# Altium integrated library Altera Cyclone IV GX update.IntLib: 117 symbols (part 38 of 38)
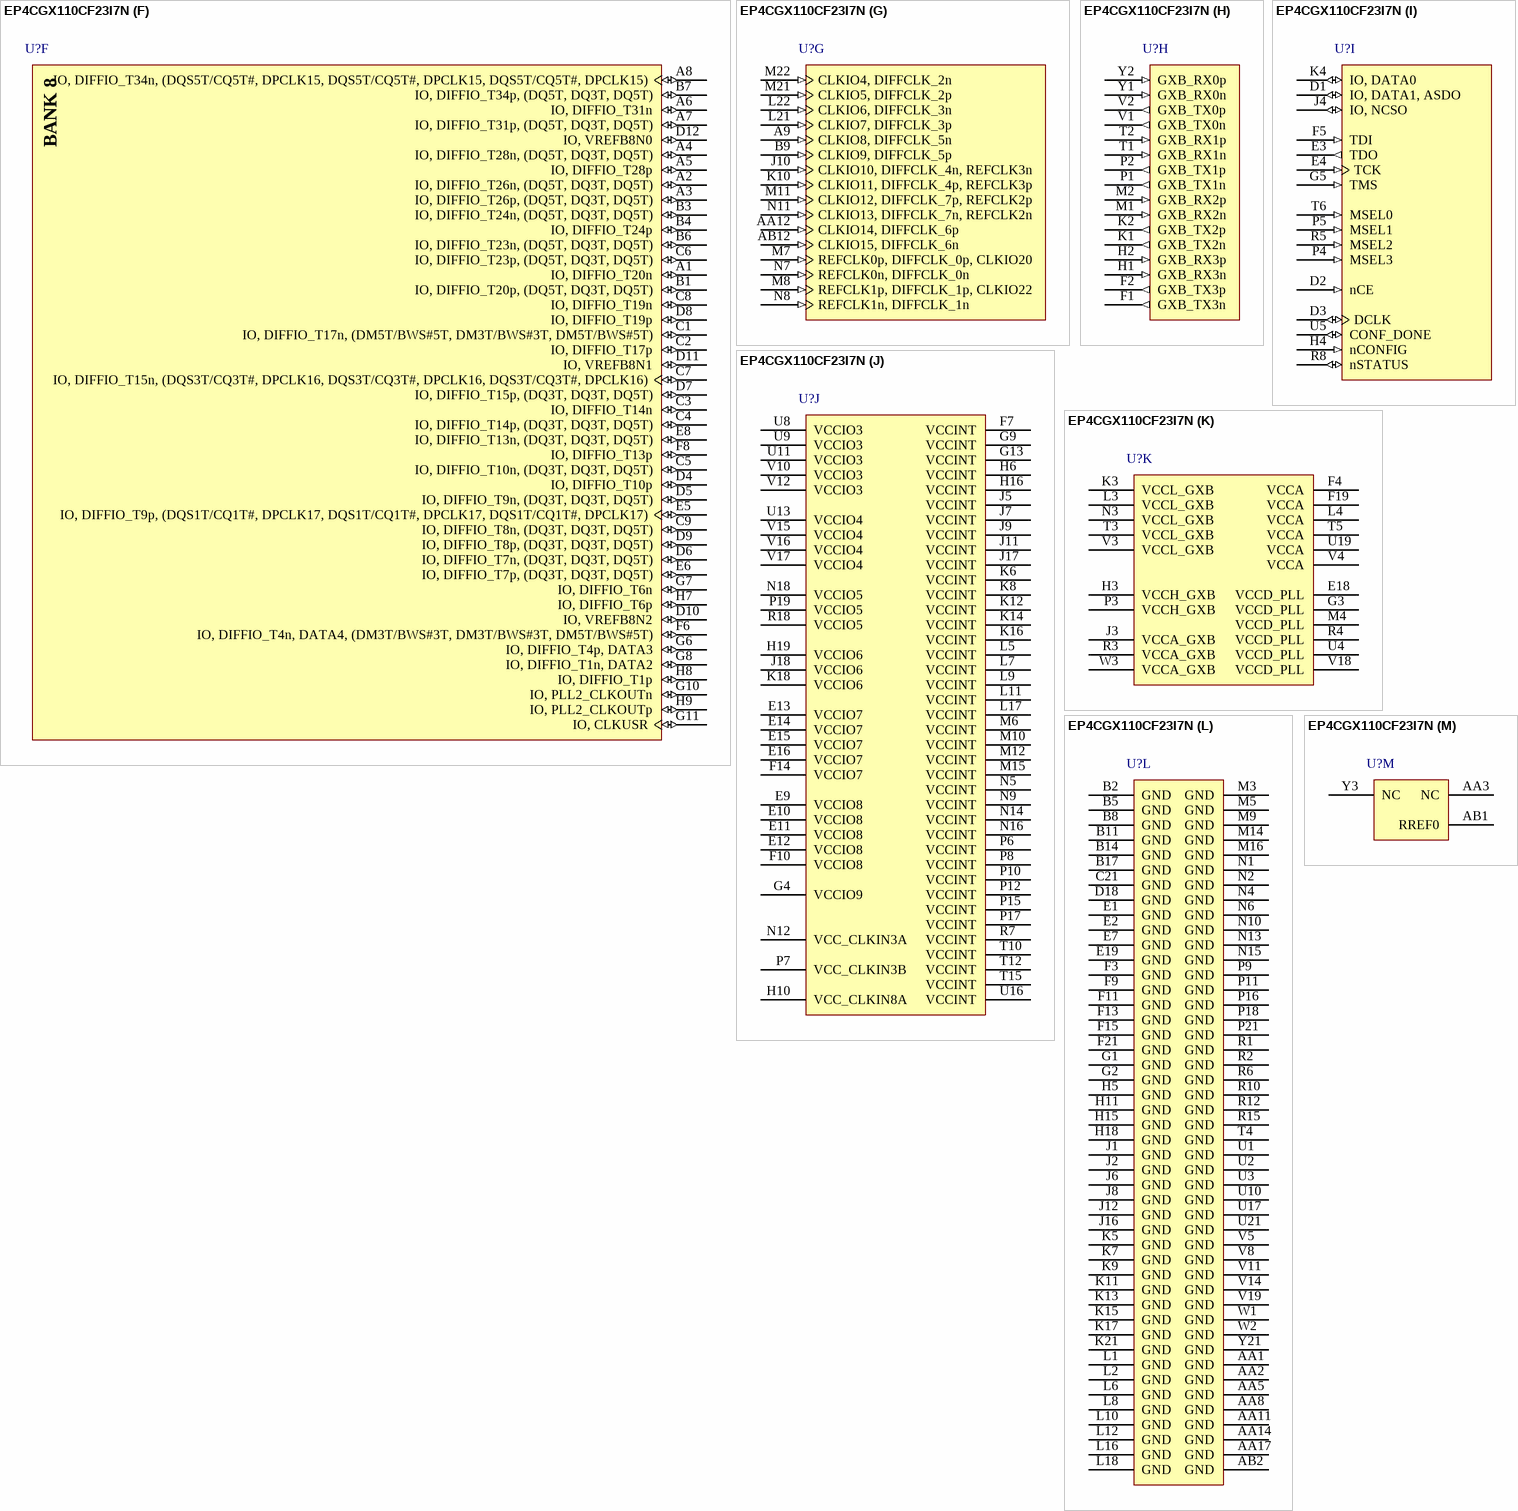
[diagram p272: symbol EP4CGX110CF23I7N]

## EP4CGX110CF23I7N
designator U?
Cyclone IV Family FPGA, 1.2 V Core, 270 I/O Pins, 6 PLLs, 4 High-Speed Transceivers, 484-Pin FBGA, Speed Grade 7, Industrial Grade, Pb-Free; Manufacturer: Altera; Device Group: EP4CGX110; GPIO: 270; Logic Elements (LE) (K): 109.424; NexusDeviceID: EP4CGX110CF23I7N; Pb-Free: TRUE; Speed Grade: 7; DatasheetVersion: Rev. 1.8; PackageVersion: Rev. 2.0, 12/2012; PackageReference: FBGA484_A-240; PackageDescription: 484-Pin FineLine Ball-Grid Array (FBGA), Body 23 x 23 mm, Pitch 1 mm; Supplier 1: Digi-Key; Supplier Part Number 1: EP4CGX110CF23I7N-ND; Supplier 2: Mouser; Supplier Part Number 2: 989-EP4CGX110CF23I7N; RoHS: RoHS Compliant; Subcategory: Cyclone IV GX; Voltage Supply: 1.2 V Core; Mounting Technology: Surface Mount; Code_JEDEC: MS-034; PartNumber: EP4CGX110CF23I7N; ComponentLink1Description: Manufacturer URL; ComponentLink1URL: http://www.altera.com/; ComponentLink2Description: Datasheet; ComponentLink2URL: http://www.altera.com/literature/hb/cyclone-iv/cyiv-53001.pdf; ComponentLink3Description: Package Specification; ComponentLink3URL: http://www.altera.com/devicepackaging/04R00416-03.pdf; ComponentLink4Description: Device Handbook URL; ComponentLink4URL: http://www.altera.com/literature/hb/cyclone-iv/cyclone4-handbook.pdf; ComponentLink5Description: Device Overview URL; ComponentLink5URL: http://www.altera.com/literature/hb/cyclone-iv/cyiv-51001.pdf; ComponentLink6Description: Device Pin-Out URL; ComponentLink6URL: http://www.altera.com/literature/dp/cyclone-iv/EP4CGX110.xls; ComponentLink7Description: Product URL; ComponentLink7URL: http://www.buyaltera.com/scripts/partsearch.dll?Detail&name=EP4CGX110CF23I7N-ND
footprint ALTR-FBGA484_A-240 (BGA, 484-Balls, Body 23x23mm, Pitch 1mm)
part A pins: AA4 IO, DIFFIO_B1p, CRC_ERROR (io), AA6 IO, DIFFIO_B17p, (DQ3B, DQ3B, DQ5B) (io), AA7 IO, DIFFIO_B19p (io), AA9 IO, DIFFIO_B22n, (DQ5B, DQ3B, DQ5B) (io), AA10 IO, DIFFIO_B32n, (DQ5B, DQ3B, DQ5B) (io), AB3 IO, DIFFIO_B1n, NCEO (io), AB4 IO, DIFFIO_B13p, (DQ3B, DQ3B, DQ5B) (io), AB5 IO, DIFFIO_B13n, (DQ3B, DQ3B, DQ5B) (io), AB6 IO, DIFFIO_B17n, (DM5B/BWS#5B, DM3B/BWS#3B, DM5B/BWS#5B) (io), AB7 IO, DIFFIO_B19n (io), AB8 IO, DIFFIO_B23p, (DQ5B, DQ3B, DQ5B) (io), AB9 IO, DIFFIO_B23n (io), AB10 IO, DIFFIO_B36p, (DM4B, DM5B/BWS#5B, DM5B/BWS#5B) (io), AB11 IO, DIFFIO_B36n, (_, DQ5B, DQ5B) (io), R9 IO, DIFFIO_B3p, DATA7 (io), R11 IO, DIFFIO_B7p, (DQS1B/CQ1B#, DPCLK0, DQS1B/CQ1B#, DPCLK0, DQS1B/CQ1B#, DPCLK0) (io), T7 IO, PLL1_CLKOUTp (io), T8 IO, PLL1_CLKOUTn (io), T9 IO, DIFFIO_B3n (io), T11 IO, DIFFIO_B7n, (DQ3B, DQ3B, DQ5B) (io), U6 IO, PLL5_CLKOUTp (io), U7 IO, PLL6_CLKOUTp (io), U12 IO, VREFB3N0 (io), V6 IO, PLL5_CLKOUTn (io), V7 IO, PLL6_CLKOUTn (io), V9 IO, VREFB3N2 (io), W4 IO, DIFFIO_B2p, DATA5 (io), W5 IO, DIFFIO_B5p, (DM3B/BWS#3B, DM3B/BWS#3B, DM5B/BWS#5B) (io), W6 IO, DIFFIO_B8p, (DQ3B, DQ3B, DQ5B) (io), W7 IO, DIFFIO_B9p, (DQ3B, DQ3B, DQ5B) (io), W8 IO, INIT_DONE (io), W9 IO, DIFFIO_B21p, (DQ5B, DQ3B, DQ5B) (io), W10 IO, VREFB3N1 (io), W11 IO, DIFFIO_B30p, (DQ5B, DQ3B, DQ5B) (io), W12 IO, DIFFIO_B35p, (DQ5B, DQ3B, DQ5B) (io), Y4 IO, DIFFIO_B2n, DATA6 (io), Y5 IO, DIFFIO_B5n, (DQ3B, DQ3B, DQ5B) (io), Y6 IO, DIFFIO_B8n, (DQ3B, DQ3B, DQ5B) (io), Y7 IO, DIFFIO_B9n, (DQ3B, DQ3B, DQ5B) (io), Y8 IO, DIFFIO_B21n, (DQS3B/CQ3B#, DPCLK1, DQS3B/CQ3B#, DPCLK1, DQS3B/CQ3B#, DPCLK1) (io), Y9 IO, DIFFIO_B22p, (DQ5B, DQ3B, DQ5B) (io), Y10 IO, DIFFIO_B32p, (DQS5B/CQ5B#, DPCLK2, DQS5B/CQ5B#, DPCLK2, DQS5B/CQ5B#, DPCLK2) (io), Y11 IO, DIFFIO_B30n, (DQ5B, DQ3B, DQ5B) (io), Y12 IO, DIFFIO_B35n, (DQ5B, DQ3B, DQ5B) (io)
part B pins: AA13 IO, DIFFIO_B41p (io), AA15 IO, DIFFIO_B58p, (DQS2B/CQ3B, DPCLK4, DQS2B/CQ3B, DPCLK4, DQS2B/CQ3B, DPCLK4) (io), AA16 IO, DIFFIO_B55n, (DQ2B, DQ5B, DQ5B) (io), AA18 IO, DIFFIO_B60n, (DQ2B, DQ5B, DQ5B) (io), AA19 IO, DIFFIO_B67p (io), AA20 IO, DIFFIO_B69p (io), AA21 IO, DIFFIO_B70p (io), AA22 IO, PLL3_CLKOUTp (io), AB13 IO, DIFFIO_B41n (io), AB14 IO, DIFFIO_B44p, (DQ4B, DQ5B, DQ5B) (io), AB15 IO, DIFFIO_B44n, (DQ4B, DQ5B, DQ5B) (io), AB16 IO, DIFFIO_B58n (io), AB17 IO, DIFFIO_B57p (io), AB18 IO, DIFFIO_B57n, (DQ2B, DQ5B, DQ5B) (io), AB19 IO, DIFFIO_B67n (io), AB20 IO, DIFFIO_B69n, (DQS0B/CQ1B, DPCLK5, DQS0B/CQ1B, DPCLK5, DQS0B/CQ1B, DPCLK5) (io), AB21 IO, DIFFIO_B70n, (_, DQ5B, DQ5B) (io), AB22 IO, PLL3_CLKOUTn (io), R13 IO, DIFFIO_B37p, (DQ4B, DQ5B, DQ5B) (io), R14 IO, DIFFIO_B46p (io), T13 IO, DIFFIO_B37n, (DQS4B/CQ5B, DPCLK3, DQS4B/CQ5B, DPCLK3, DQS4B/CQ5B, DPCLK3) (io), T14 IO, DIFFIO_B46n (io), T16 IO, VREFB4N0 (io), U14 IO, DIFFIO_B54p (io), U15 IO, DIFFIO_B54n, (DQ2B, DQ5B, DQ5B) (io), V13 IO, VREFB4N2 (io), W13 IO, DIFFIO_B39p, (DQ4B, DQ5B, DQ5B) (io), W14 IO, DIFFIO_B45p, (DQ4B, DQ5B, DQ5B) (io), W15 IO, DIFFIO_B52p, (DQ4B, DQ5B, DQ5B) (io), W16 IO, VREFB4N1 (io), W17 IO, DIFFIO_B59p, (DQ2B, DQ5B, DQ5B) (io), W18 IO, DIFFIO_B72p (io), W19 IO, RUP2 (io), Y13 IO, DIFFIO_B39n, (DQ4B, DQ5B, DQ5B) (io), Y14 IO, DIFFIO_B45n, (DQ4B, DQ5B, DQ5B) (io), Y15 IO, DIFFIO_B52n, (DM2B, DM5B/BWS#5B, DM5B/BWS#5B) (io), Y16 IO, DIFFIO_B55p, (DQ2B, DQ5B, DQ5B) (io), Y17 IO, DIFFIO_B59n (io), Y18 IO, DIFFIO_B60p, (DQ2B, DQ5B, DQ5B) (io), Y19 IO, DIFFIO_B72n, (DQ2B, DQ5B, DQ5B) (io), Y20 IO, RDN2 (io)
part C pins: L13 IO, DIFFIO_R39n (io), L14 IO, DIFFIO_R43p (io), L15 IO, DIFFIO_R43n, (DQ1R, DQ3R, DQ1R) (io), M13 IO, DIFFIO_R39p, (DQ1R, DQ3R, DQ1R) (io), M17 IO, DIFFIO_R40n (io), M18 IO, DIFFIO_R34p, (DQ1R, DQ3R, DQ1R) (io), M19 IO, DIFFIO_R34n, (DQ1R, DQ3R, DQ1R) (io), M20 IO, VREFB5N0 (io), N17 IO, DIFFIO_R40p, (DQ1R, DQ3R, DQ1R) (io), N19 IO, DIFFIO_R38p, (DQS1R/CQ1R#, DPCLK8, DQS1R/CQ1R#, DPCLK8, DQS1R/CQ1R#, DPCLK8) (io), N20 IO, DIFFIO_R38n (io), N21 IO, DIFFIO_R36p, (DQ1R, DQ3R, DQ1R) (io), N22 IO, DIFFIO_R36n, (DQ1R, DQ3R, DQ1R) (io), P13 IO, DIFFIO_R55p, DEV_CLRn (io), P14 IO, DIFFIO_R55n, DEV_OE (io), P20 IO, VREFB5N1 (io), P22 IO, DIFFIO_R41n, (DQ1R, DQ3R, DQ1R) (io), R16 IO, DIFFIO_R61p, (DQS5R/CQ5R#, DPCLK6, DQS5R/CQ5R#, DPCLK6, DQS5R/CQ5R#, DPCLK6) (io), R17 IO, DIFFIO_R61n, (DM3R/BWS#3R, DM3R/BWS#3R, DM1R/BWS#1R) (io), R19 IO, DIFFIO_R51p, (DQ3R, DQ3R, DQ1R) (io), R20 IO, DIFFIO_R48p, (DM1R/BWS#1R, DM3R/BWS#3R, DM1R/BWS#1R) (io), R21 IO, DIFFIO_R48n (io), R22 IO, DIFFIO_R41p (io), T17 IO, RUP3 (io), T18 IO, RDN3 (io), T19 IO, DIFFIO_R52p (io), T20 IO, DIFFIO_R51n, (DQ3R, DQ3R, DQ1R) (io), T21 IO, DIFFIO_R46p, (DQ1R, DQ3R, DQ1R) (io), T22 IO, DIFFIO_R46n (io), U18 IO, VREFB5N2 (io), U20 IO, DIFFIO_R52n, (DQ3R, DQ3R, DQ1R) (io), U22 IO, DIFFIO_R50n (io), V20 IO, DIFFIO_R54p, (DQ3R, DQ3R, DQ1R) (io), V21 IO, DIFFIO_R54n, (DQ3R, DQ3R, DQ1R) (io), V22 IO, DIFFIO_R50p, (DQS3R/CQ3R#, DPCLK7, DQS3R/CQ3R#, DPCLK7, DQS3R/CQ3R#, DPCLK7) (io), W20 IO, DIFFIO_R57p, (DQ3R, DQ3R, DQ1R) (io), W21 IO, DIFFIO_R57n, (DQ3R, DQ3R, DQ1R) (io), W22 IO, DIFFIO_R60n, (DQ3R, DQ3R, DQ1R) (io), Y22 IO, DIFFIO_R60p, (DQ3R, DQ3R, DQ1R) (io)
part D pins: A20 IO, DIFFIO_R12n (io), A21 IO, DIFFIO_R14p, (DQ2R, DQ1R, DQ1R) (io), A22 IO, DIFFIO_R14n (io), B19 IO, DIFFIO_R12p, (DQ2R, DQ1R, DQ1R) (io), B20 IO, DIFFIO_R10p, (DQ2R, DQ1R, DQ1R) (io), B21 IO, DIFFIO_R10n, (DQS2R/CQ3R, DPCLK10, DQS2R/CQ3R, DPCLK10, DQS2R/CQ3R, DPCLK10) (io), B22 IO, DIFFIO_R15n (io), C19 IO, DIFFIO_R11p, (DQ2R, DQ1R, DQ1R) (io), C20 IO, DIFFIO_R11n (io), C22 IO, DIFFIO_R15p, (_, DQ1R, DQ1R) (io), D19 IO, DIFFIO_R13p, (DQ2R, DQ1R, DQ1R) (io), D20 IO, DIFFIO_R13n (io), D21 IO, DIFFIO_R16p, (DM2R, DM1R/BWS#1R, DM1R/BWS#1R) (io), D22 IO, DIFFIO_R16n (io), E20 IO, DIFFIO_R20n (io), E21 IO, DIFFIO_R17p, (_, DQ1R, DQ1R) (io), E22 IO, DIFFIO_R17n (io), F18 IO, DIFFIO_R1p, (DQ2R, DQ1R, DQ1R) (io), F20 IO, DIFFIO_R20p (io), F22 IO, DIFFIO_R19n, (DQ0R, DQ1R, DQ1R) (io), G16 IO, DIFFIO_R2p, (DQS4R/CQ5R, DPCLK11, DQS4R/CQ5R, DPCLK11, DQS4R/CQ5R, DPCLK11) (io), G17 IO, DIFFIO_R2n, (DQ2R, DQ1R, DQ1R) (io), G18 IO, VREFB6N0 (io), G19 IO, DIFFIO_R1n, (DQ2R, DQ1R, DQ1R) (io), G20 IO, DIFFIO_R22p, (DQ0R, DQ1R, DQ1R) (io), G21 IO, DIFFIO_R22n (io), G22 IO, DIFFIO_R19p (io), H17 IO, VREFB6N1 (io), H20 IO, DIFFIO_R23p, (DQ0R, DQ1R, DQ1R) (io), H21 IO, DIFFIO_R23n (io), H22 IO, DIFFIO_R29n, (DQS0R/CQ1R, DPCLK9, DQS0R/CQ1R, DPCLK9, DQS0R/CQ1R, DPCLK9) (io), J15 IO, VREFB6N2 (io), J19 IO, DIFFIO_R31p, (DQ0R, DQ1R, DQ1R) (io), J20 IO, DIFFIO_R31n, (DQ0R, DQ1R, DQ1R) (io), J21 IO, DIFFIO_R29p (io), J22 IO, DIFFIO_R26n (io), K19 IO, DIFFIO_R25p, (DQ0R, DQ1R, DQ1R) (io), K20 IO, DIFFIO_R25n (io), K22 IO, DIFFIO_R26p, (DQ0R, DQ1R, DQ1R) (io), L19 IO, DIFFIO_R32p, (DQ0R, DQ1R, DQ1R) (io), L20 IO, DIFFIO_R32n, (DM0R, DM1R/BWS#1R, DM1R/BWS#1R) (io)
part E pins: A10 IO, DIFFIO_T37n, (DQ4T, DQ5T, DQ5T) (io), A11 IO, DIFFIO_T40n, (DQ4T, DQ5T, DQ5T) (io), A12 IO, DIFFIO_T40p (io), A13 IO, DIFFIO_T52n (io), A14 IO, DIFFIO_T52p, (_, DQ5T, DQ5T) (io), A15 IO, DIFFIO_T56n, (DQ2T, DQ5T, DQ5T) (io), A16 IO, DIFFIO_T63n, (DQ2T, DQ5T, DQ5T) (io), A17 IO, DIFFIO_T63p (io), A18 IO, DIFFIO_T69n, (DQ2T, DQ5T, DQ5T) (io), A19 IO, DIFFIO_T69p, (DQ2T, DQ5T, DQ5T) (io), B10 IO, DIFFIO_T37p, (DQS4T/CQ5T, DPCLK14, DQS4T/CQ5T, DPCLK14, DQS4T/CQ5T, DPCLK14) (io), B12 IO, DIFFIO_T49n, (DQ4T, DQ5T, DQ5T) (io), B13 IO, DIFFIO_T49p, (DQ4T, DQ5T, DQ5T) (io), B15 IO, DIFFIO_T56p, (DQ2T, DQ5T, DQ5T) (io), B16 IO, DIFFIO_T65n, (DQS0T/CQ1T, DPCLK12, DQS0T/CQ1T, DPCLK12, DQS0T/CQ1T, DPCLK12) (io), B18 IO (io), C10 IO, DIFFIO_T42n, (DQ4T, DQ5T, DQ5T) (io), C11 IO, DIFFIO_T42p (io), C12 IO, DIFFIO_T51n, (DM2T, DM5T/BWS#5T, DM5T/BWS#5T) (io), C13 IO, DIFFIO_T51p (io), C14 IO, DIFFIO_T55n (io), C15 IO, DIFFIO_T61n, (DQ2T, DQ5T, DQ5T) (io), C16 IO, DIFFIO_T65p, (DQ2T, DQ5T, DQ5T) (io), C17 IO, PLL4_CLKOUTn (io), C18 IO, PLL4_CLKOUTp (io), D13 IO, VREFB7N1 (io), D14 IO, DIFFIO_T55p, (DQ2T, DQ5T, DQ5T) (io), D15 IO, DIFFIO_T61p (io), D16 IO, VREFB7N0 (io), D17 IO, DIFFIO_T67n (io), E17 IO, DIFFIO_T67p (io), F12 IO, VREFB7N2 (io), F16 IO, RUP4 (io), F17 IO, RDN4 (io), G12 IO, DIFFIO_T36n, (_, DQ5T, DQ5T) (io), G14 IO, DIFFIO_T47n (io), G15 IO, DIFFIO_T47p, (DQS2T/CQ3T, DPCLK13, DQS2T/CQ3T, DPCLK13, DQS2T/CQ3T, DPCLK13) (io), H12 IO, DIFFIO_T36p, (DM4T, DM5T/BWS#5T, DM5T/BWS#5T) (io), H13 IO, DIFFIO_T41n, (DQ4T, DQ5T, DQ5T) (io), H14 IO, DIFFIO_T45n (io), J13 IO, DIFFIO_T41p, (DQ4T, DQ5T, DQ5T) (io), J14 IO, DIFFIO_T45p, (DQ4T, DQ5T, DQ5T) (io)
part F pins: A1 IO, DIFFIO_T20n (io), A2 IO, DIFFIO_T26n, (DQ5T, DQ3T, DQ5T) (io), A3 IO, DIFFIO_T26p, (DQ5T, DQ3T, DQ5T) (io), A4 IO, DIFFIO_T28n, (DQ5T, DQ3T, DQ5T) (io), A5 IO, DIFFIO_T28p (io), A6 IO, DIFFIO_T31n (io), A7 IO, DIFFIO_T31p, (DQ5T, DQ3T, DQ5T) (io), A8 IO, DIFFIO_T34n, (DQS5T/CQ5T#, DPCLK15, DQS5T/CQ5T#, DPCLK15, DQS5T/CQ5T#, DPCLK15) (io), B1 IO, DIFFIO_T20p, (DQ5T, DQ3T, DQ5T) (io), B3 IO, DIFFIO_T24n, (DQ5T, DQ3T, DQ5T) (io), B4 IO, DIFFIO_T24p (io), B6 IO, DIFFIO_T23n, (DQ5T, DQ3T, DQ5T) (io), B7 IO, DIFFIO_T34p, (DQ5T, DQ3T, DQ5T) (io), C1 IO, DIFFIO_T17n, (DM5T/BWS#5T, DM3T/BWS#3T, DM5T/BWS#5T) (io), C2 IO, DIFFIO_T17p (io), C3 IO, DIFFIO_T14n (io), C4 IO, DIFFIO_T14p, (DQ3T, DQ3T, DQ5T) (io), C5 IO, DIFFIO_T10n, (DQ3T, DQ3T, DQ5T) (io), C6 IO, DIFFIO_T23p, (DQ5T, DQ3T, DQ5T) (io), C7 IO, DIFFIO_T15n, (DQS3T/CQ3T#, DPCLK16, DQS3T/CQ3T#, DPCLK16, DQS3T/CQ3T#, DPCLK16) (io), C8 IO, DIFFIO_T19n (io), C9 IO, DIFFIO_T8n, (DQ3T, DQ3T, DQ5T) (io), D4 IO, DIFFIO_T10p (io), D5 IO, DIFFIO_T9n, (DQ3T, DQ3T, DQ5T) (io), D6 IO, DIFFIO_T7n, (DQ3T, DQ3T, DQ5T) (io), D7 IO, DIFFIO_T15p, (DQ3T, DQ3T, DQ5T) (io), D8 IO, DIFFIO_T19p (io), D9 IO, DIFFIO_T8p, (DQ3T, DQ3T, DQ5T) (io), D10 IO, VREFB8N2 (io), D11 IO, VREFB8N1 (io), D12 IO, VREFB8N0 (io), E5 IO, DIFFIO_T9p, (DQS1T/CQ1T#, DPCLK17, DQS1T/CQ1T#, DPCLK17, DQS1T/CQ1T#, DPCLK17) (io), E6 IO, DIFFIO_T7p, (DQ3T, DQ3T, DQ5T) (io), E8 IO, DIFFIO_T13n, (DQ3T, DQ3T, DQ5T) (io), F6 IO, DIFFIO_T4n, DATA4, (DM3T/BWS#3T, DM3T/BWS#3T, DM5T/BWS#5T) (io), F8 IO, DIFFIO_T13p (io), G6 IO, DIFFIO_T4p, DATA3 (io), G7 IO, DIFFIO_T6n (io), G8 IO, DIFFIO_T1n, DATA2 (io), G10 IO, PLL2_CLKOUTn (io), G11 IO, CLKUSR (io), H7 IO, DIFFIO_T6p (io), H8 IO, DIFFIO_T1p (io), H9 IO, PLL2_CLKOUTp (io)
part G pins: A9 CLKIO8, DIFFCLK_5n (in), AA12 CLKIO14, DIFFCLK_6p (in), AB12 CLKIO15, DIFFCLK_6n (in), B9 CLKIO9, DIFFCLK_5p (in), J10 CLKIO10, DIFFCLK_4n, REFCLK3n (in), K10 CLKIO11, DIFFCLK_4p, REFCLK3p (in), L21 CLKIO7, DIFFCLK_3p (in), L22 CLKIO6, DIFFCLK_3n (in), M7 REFCLK0p, DIFFCLK_0p, CLKIO20 (in), M8 REFCLK1p, DIFFCLK_1p, CLKIO22 (in), M11 CLKIO12, DIFFCLK_7p, REFCLK2p (in), M21 CLKIO5, DIFFCLK_2p (in), M22 CLKIO4, DIFFCLK_2n (in), N7 REFCLK0n, DIFFCLK_0n (in), N8 REFCLK1n, DIFFCLK_1n (in), N11 CLKIO13, DIFFCLK_7n, REFCLK2n (in)
part H pins: F1 GXB_TX3n (out), F2 GXB_TX3p (out), H1 GXB_RX3n (in), H2 GXB_RX3p (in), K1 GXB_TX2n (out), K2 GXB_TX2p (out), M1 GXB_RX2n (in), M2 GXB_RX2p (in), P1 GXB_TX1n (out), P2 GXB_TX1p (out), T1 GXB_RX1n (in), T2 GXB_RX1p (in), V1 GXB_TX0n (out), V2 GXB_TX0p (out), Y1 GXB_RX0n (in), Y2 GXB_RX0p (in)
part I pins: D1 IO, DATA1, ASDO (io), D2 nCE (in), D3 DCLK (io), E3 TDO (out), E4 TCK (in), F5 TDI (in), G5 TMS (in), H4 nCONFIG (in), J4 IO, NCSO (io), K4 IO, DATA0 (io), P4 MSEL3 (in), P5 MSEL1 (in), R5 MSEL2 (in), R8 nSTATUS (io), T6 MSEL0 (in), U5 CONF_DONE (io)
part J pins: E9 VCCIO8 (power), E10 VCCIO8 (power), E11 VCCIO8 (power), E12 VCCIO8 (power), E13 VCCIO7 (power), E14 VCCIO7 (power), E15 VCCIO7 (power), E16 VCCIO7 (power), F7 VCCINT (power), F10 VCCIO8 (power), F14 VCCIO7 (power), G4 VCCIO9 (power), G9 VCCINT (power), G13 VCCINT (power), H6 VCCINT (power), H10 VCC_CLKIN8A (power), H16 VCCINT (power), H19 VCCIO6 (power), J5 VCCINT (power), J7 VCCINT (power), J9 VCCINT (power), J11 VCCINT (power), J17 VCCINT (power), J18 VCCIO6 (power), K6 VCCINT (power), K8 VCCINT (power), K12 VCCINT (power), K14 VCCINT (power), K16 VCCINT (power), K18 VCCIO6 (power), L5 VCCINT (power), L7 VCCINT (power), L9 VCCINT (power), L11 VCCINT (power), L17 VCCINT (power), M6 VCCINT (power), M10 VCCINT (power), M12 VCCINT (power), M15 VCCINT (power), N5 VCCINT (power), N9 VCCINT (power), N12 VCC_CLKIN3A (power), N14 VCCINT (power), N16 VCCINT (power), N18 VCCIO5 (power), P6 VCCINT (power), P7 VCC_CLKIN3B (power), P8 VCCINT (power), P10 VCCINT (power), P12 VCCINT (power), P15 VCCINT (power), P17 VCCINT (power), P19 VCCIO5 (power), R7 VCCINT (power), R18 VCCIO5 (power), T10 VCCINT (power), T12 VCCINT (power), T15 VCCINT (power), U8 VCCIO3 (power), U9 VCCIO3 (power), U11 VCCIO3 (power), U13 VCCIO4 (power), U16 VCCINT (power), V10 VCCIO3 (power), V12 VCCIO3 (power), V15 VCCIO4 (power), V16 VCCIO4 (power), V17 VCCIO4 (power)
part K pins: E18 VCCD_PLL (power), F4 VCCA (power), F19 VCCA (power), G3 VCCD_PLL (power), H3 VCCH_GXB (power), J3 VCCA_GXB (power), K3 VCCL_GXB (power), L3 VCCL_GXB (power), L4 VCCA (power), M4 VCCD_PLL (power), N3 VCCL_GXB (power), P3 VCCH_GXB (power), R3 VCCA_GXB (power), R4 VCCD_PLL (power), T3 VCCL_GXB (power), T5 VCCA (power), U4 VCCD_PLL (power), U19 VCCA (power), V3 VCCL_GXB (power), V4 VCCA (power), V18 VCCD_PLL (power), W3 VCCA_GXB (power)
part L pins: AA1 GND (power), AA2 GND (power), AA5 GND (power), AA8 GND (power), AA11 GND (power), AA14 GND (power), AA17 GND (power), AB2 GND (power), B2 GND (power), B5 GND (power), B8 GND (power), B11 GND (power), B14 GND (power), B17 GND (power), C21 GND (power), D18 GND (power), E1 GND (power), E2 GND (power), E7 GND (power), E19 GND (power), F3 GND (power), F9 GND (power), F11 GND (power), F13 GND (power), F15 GND (power), F21 GND (power), G1 GND (power), G2 GND (power), H5 GND (power), H11 GND (power), H15 GND (power), H18 GND (power), J1 GND (power), J2 GND (power), J6 GND (power), J8 GND (power), J12 GND (power), J16 GND (power), K5 GND (power), K7 GND (power), K9 GND (power), K11 GND (power), K13 GND (power), K15 GND (power), K17 GND (power), K21 GND (power), L1 GND (power), L2 GND (power), L6 GND (power), L8 GND (power), L10 GND (power), L12 GND (power), L16 GND (power), L18 GND (power), M3 GND (power), M5 GND (power), M9 GND (power), M14 GND (power), M16 GND (power), N1 GND (power), N2 GND (power), N4 GND (power), N6 GND (power), N10 GND (power), N13 GND (power), N15 GND (power), P9 GND (power), P11 GND (power), P16 GND (power), P18 GND (power), P21 GND (power), R1 GND (power), R2 GND (power), R6 GND (power), R10 GND (power), R12 GND (power), R15 GND (power), T4 GND (power), U1 GND (power), U2 GND (power), U3 GND (power), U10 GND (power), U17 GND (power), U21 GND (power), V5 GND (power), V8 GND (power), V11 GND (power), V14 GND (power), V19 GND (power), W1 GND (power), W2 GND (power), Y21 GND (power)
part M pins: AA3 NC, AB1 RREF0, Y3 NC
part A text: BANK 3
part B text: BANK 4
part C text: BANK 5
part D text: BANK 6
part E text: BANK 7
part F text: BANK 8

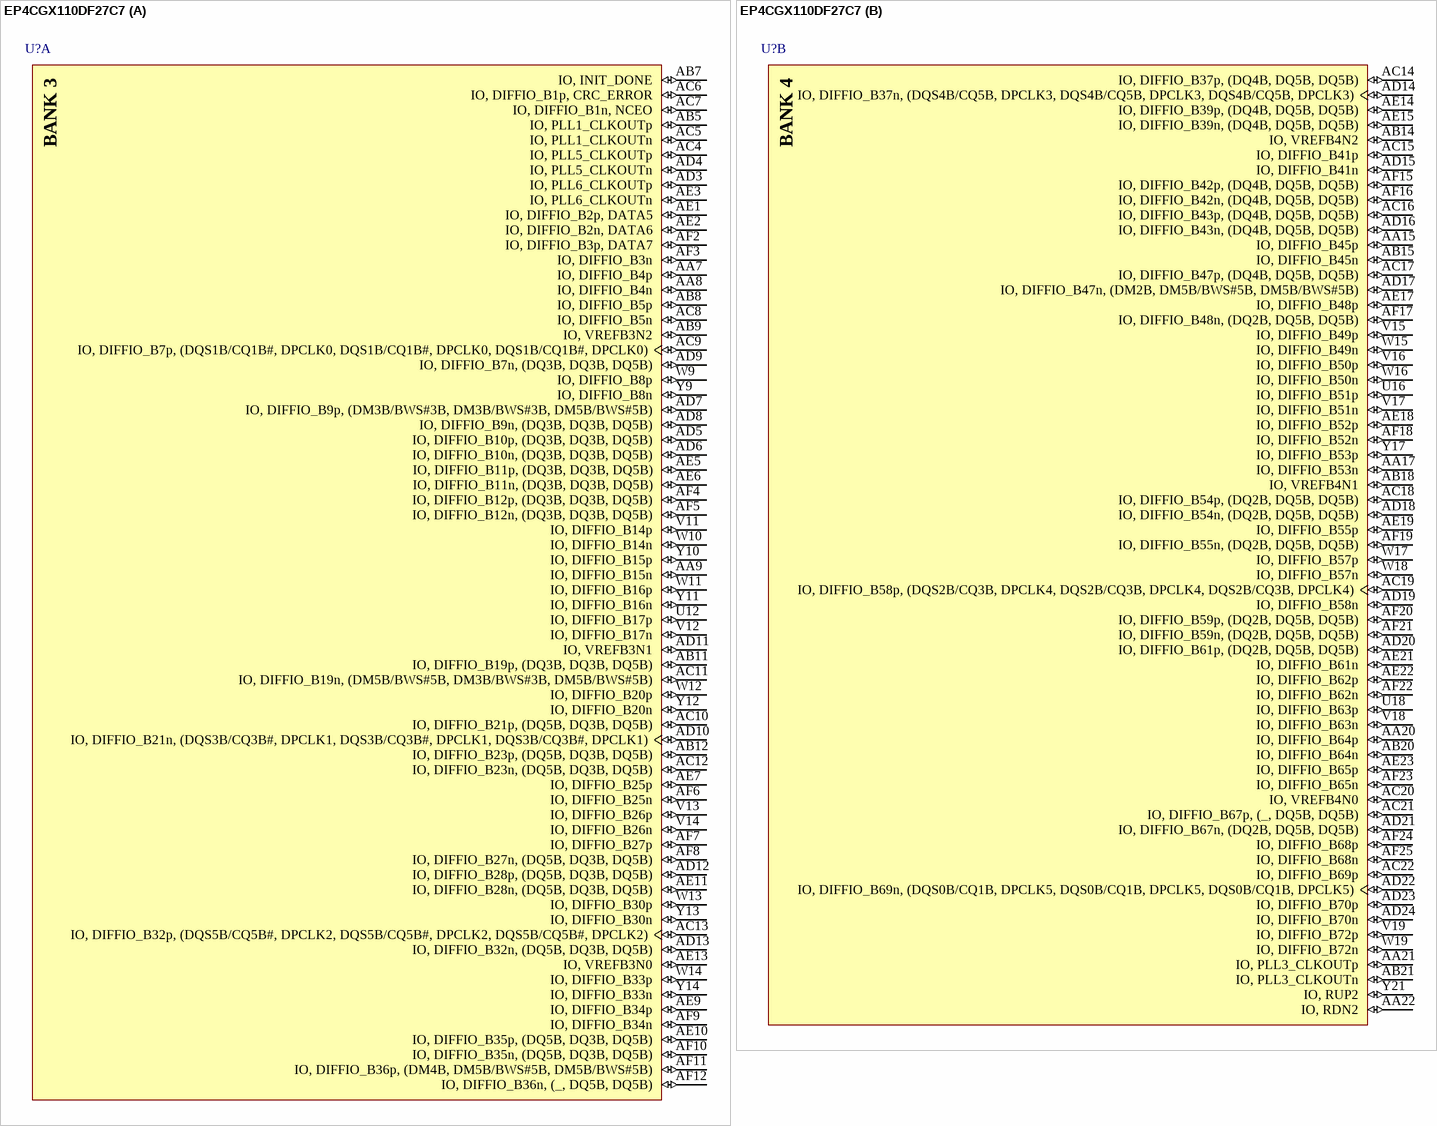
[diagram p145: symbol EP4CGX110DF27C7]

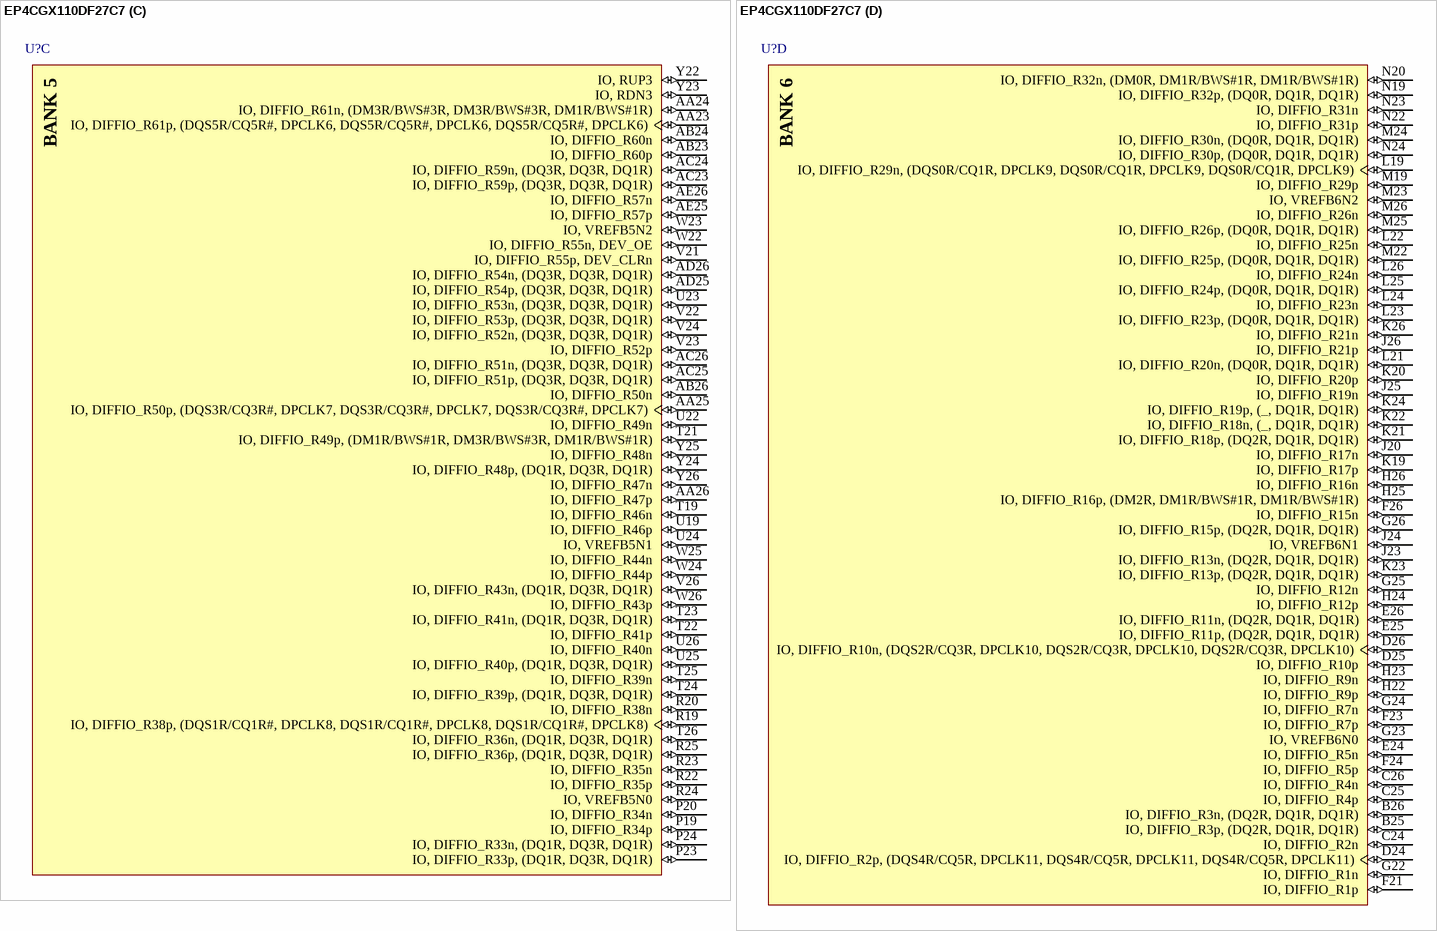
[diagram p146: symbol EP4CGX110DF27C7]

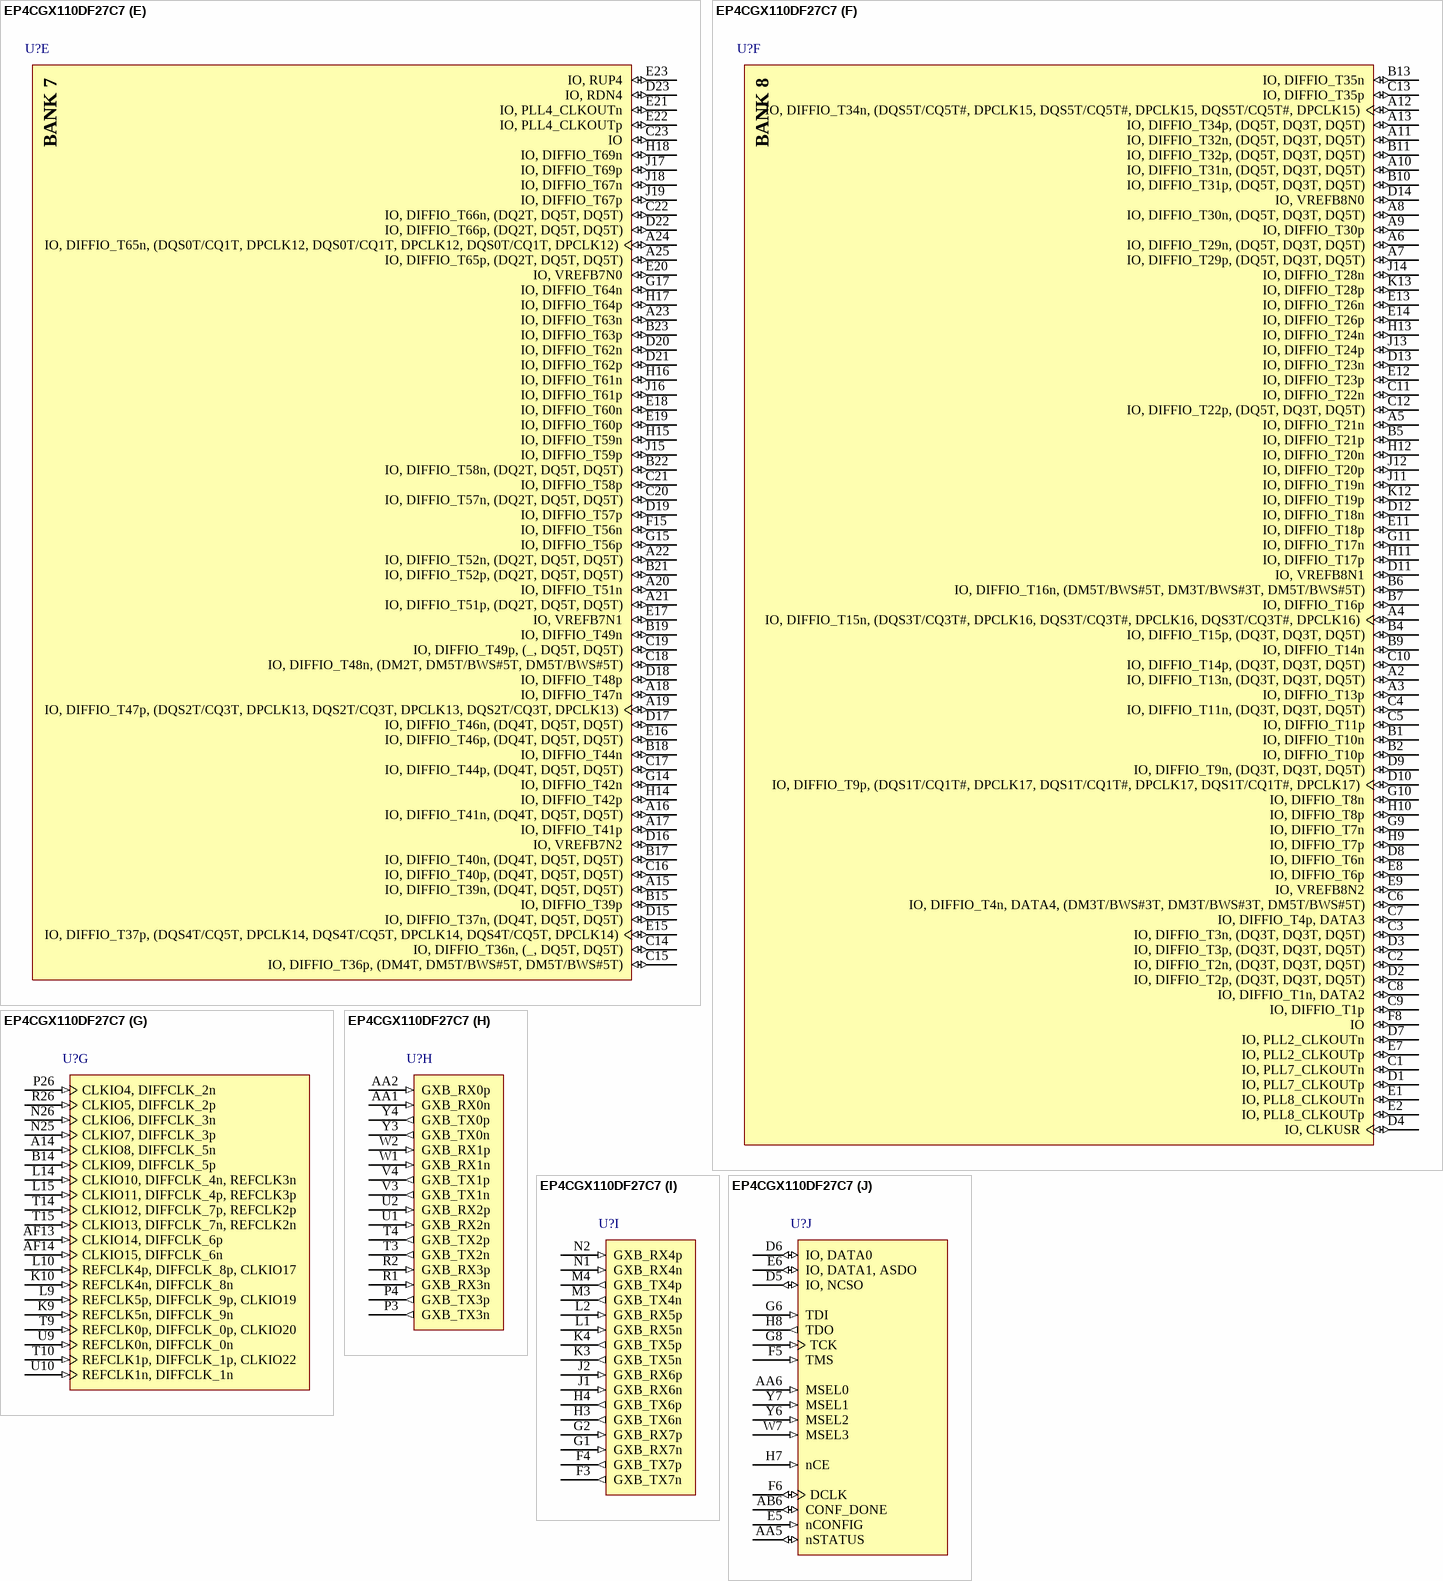
[diagram p147: symbol EP4CGX110DF27C7]

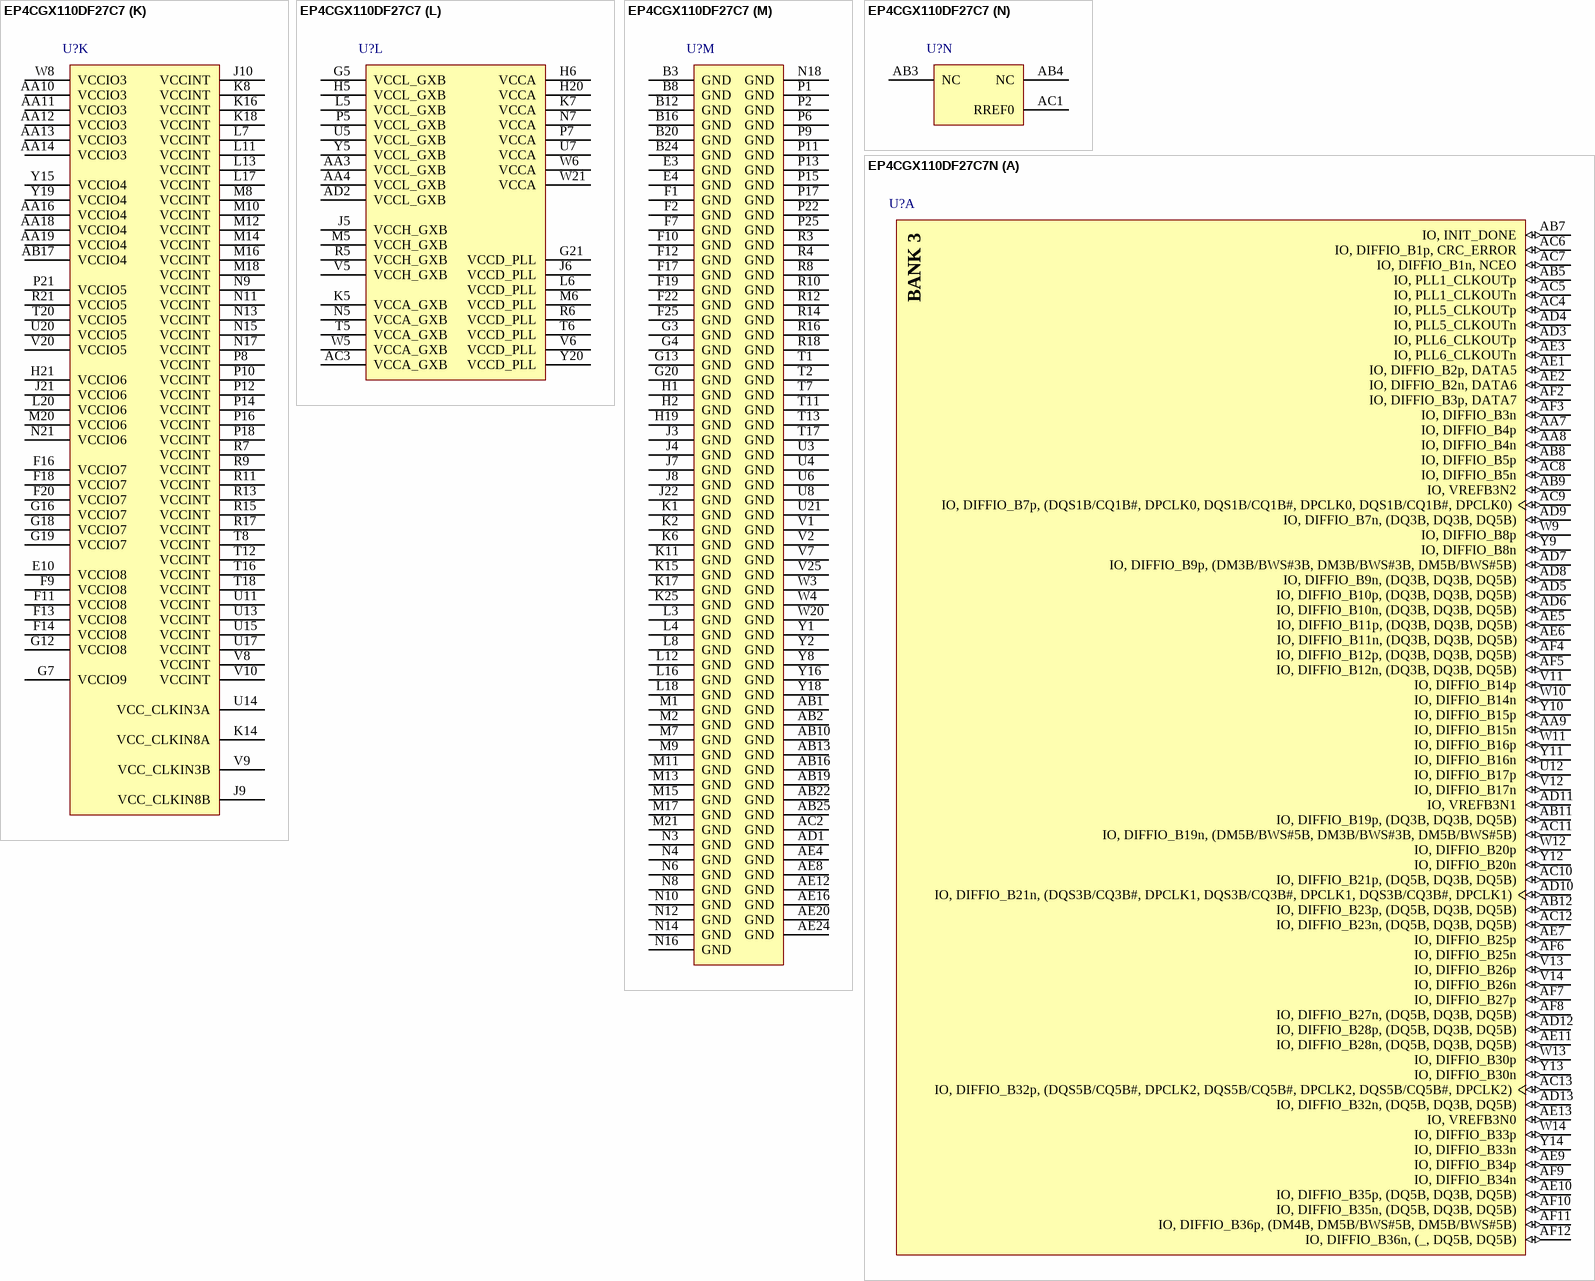
[diagram p148: symbols EP4CGX110DF27C7 to EP4CGX110DF27C7N]

## EP4CGX110DF27C7
designator U?
Cyclone IV Family FPGA, 1.2 V Core, 393 I/O Pins, 8 PLLs, 8 High-Speed Transceivers, 672-Pin FBGA, Speed Grade 7, Commercial Grade; Manufacturer: Altera; Device Group: EP4CGX110; GPIO: 393; Logic Elements (LE) (K): 109.424; NexusDeviceID: EP4CGX110DF27C7; Speed Grade: 7; DatasheetVersion: Rev. 1.8; PackageVersion: Rev. 2.0, 12/2013; PackageReference: FBGA672_A-240; PackageDescription: 672-Pin FineLine Ball-Grid Array (FBGA), Body 27 x 27 mm, Pitch 1 mm; Supplier 1: Digi-Key; Supplier Part Number 1: EP4CGX110DF27C7-ND; Supplier 2: Mouser; Supplier Part Number 2: 989-EP4CGX110DF27C7; Subcategory: Cyclone IV GX; Voltage Supply: 1.2 V Core; Mounting Technology: Surface Mount; Code_JEDEC: MS-034; PartNumber: EP4CGX110DF27C7; ComponentLink1Description: Manufacturer URL; ComponentLink1URL: http://www.altera.com/; ComponentLink2Description: Datasheet; ComponentLink2URL: http://www.altera.com/literature/hb/cyclone-iv/cyiv-53001.pdf; ComponentLink3Description: Package Specification; ComponentLink3URL: http://www.altera.com/devicepackaging/04R00419-02.pdf; ComponentLink4Description: Device Handbook URL; ComponentLink4URL: http://www.altera.com/literature/hb/cyclone-iv/cyclone4-handbook.pdf; ComponentLink5Description: Device Overview URL; ComponentLink5URL: http://www.altera.com/literature/hb/cyclone-iv/cyiv-51001.pdf; ComponentLink6Description: Device Pin-Out URL; ComponentLink6URL: http://www.altera.com/literature/dp/cyclone-iv/EP4CGX110.xls; ComponentLink7Description: Product URL; ComponentLink7URL: http://www.buyaltera.com/scripts/partsearch.dll?Detail&name=EP4CGX110DF27C7-ND
footprint ALTR-FBGA672_A-240 (BGA, 672-Balls, Body 27x27mm, Pitch 1mm)
part A pins: AA7 IO, DIFFIO_B4p (io), AA8 IO, DIFFIO_B4n (io), AA9 IO, DIFFIO_B15n (io), AB5 IO, PLL1_CLKOUTp (io), AB7 IO, INIT_DONE (io), AB8 IO, DIFFIO_B5p (io), AB9 IO, VREFB3N2 (io), AB11 IO, DIFFIO_B19p, (DQ3B, DQ3B, DQ5B) (io), AB12 IO, DIFFIO_B23p, (DQ5B, DQ3B, DQ5B) (io), AC4 IO, PLL5_CLKOUTp (io), AC5 IO, PLL1_CLKOUTn (io), AC6 IO, DIFFIO_B1p, CRC_ERROR (io), AC7 IO, DIFFIO_B1n, NCEO (io), AC8 IO, DIFFIO_B5n (io), AC9 IO, DIFFIO_B7p, (DQS1B/CQ1B#, DPCLK0, DQS1B/CQ1B#, DPCLK0, DQS1B/CQ1B#, DPCLK0) (io), AC10 IO, DIFFIO_B21p, (DQ5B, DQ3B, DQ5B) (io), AC11 IO, DIFFIO_B19n, (DM5B/BWS#5B, DM3B/BWS#3B, DM5B/BWS#5B) (io), AC12 IO, DIFFIO_B23n, (DQ5B, DQ3B, DQ5B) (io), AC13 IO, DIFFIO_B32p, (DQS5B/CQ5B#, DPCLK2, DQS5B/CQ5B#, DPCLK2, DQS5B/CQ5B#, DPCLK2) (io), AD3 IO, PLL6_CLKOUTp (io), AD4 IO, PLL5_CLKOUTn (io), AD5 IO, DIFFIO_B10p, (DQ3B, DQ3B, DQ5B) (io), AD6 IO, DIFFIO_B10n, (DQ3B, DQ3B, DQ5B) (io), AD7 IO, DIFFIO_B9p, (DM3B/BWS#3B, DM3B/BWS#3B, DM5B/BWS#5B) (io), AD8 IO, DIFFIO_B9n, (DQ3B, DQ3B, DQ5B) (io), AD9 IO, DIFFIO_B7n, (DQ3B, DQ3B, DQ5B) (io), AD10 IO, DIFFIO_B21n, (DQS3B/CQ3B#, DPCLK1, DQS3B/CQ3B#, DPCLK1, DQS3B/CQ3B#, DPCLK1) (io), AD11 IO, VREFB3N1 (io), AD12 IO, DIFFIO_B28p, (DQ5B, DQ3B, DQ5B) (io), AD13 IO, DIFFIO_B32n, (DQ5B, DQ3B, DQ5B) (io), AE1 IO, DIFFIO_B2p, DATA5 (io), AE2 IO, DIFFIO_B2n, DATA6 (io), AE3 IO, PLL6_CLKOUTn (io), AE5 IO, DIFFIO_B11p, (DQ3B, DQ3B, DQ5B) (io), AE6 IO, DIFFIO_B11n, (DQ3B, DQ3B, DQ5B) (io), AE7 IO, DIFFIO_B25p (io), AE9 IO, DIFFIO_B34p (io), AE10 IO, DIFFIO_B35p, (DQ5B, DQ3B, DQ5B) (io), AE11 IO, DIFFIO_B28n, (DQ5B, DQ3B, DQ5B) (io), AE13 IO, VREFB3N0 (io), AF2 IO, DIFFIO_B3p, DATA7 (io), AF3 IO, DIFFIO_B3n (io), AF4 IO, DIFFIO_B12p, (DQ3B, DQ3B, DQ5B) (io), AF5 IO, DIFFIO_B12n, (DQ3B, DQ3B, DQ5B) (io), AF6 IO, DIFFIO_B25n (io), AF7 IO, DIFFIO_B27p (io), AF8 IO, DIFFIO_B27n, (DQ5B, DQ3B, DQ5B) (io), AF9 IO, DIFFIO_B34n (io), AF10 IO, DIFFIO_B35n, (DQ5B, DQ3B, DQ5B) (io), AF11 IO, DIFFIO_B36p, (DM4B, DM5B/BWS#5B, DM5B/BWS#5B) (io), AF12 IO, DIFFIO_B36n, (_, DQ5B, DQ5B) (io), U12 IO, DIFFIO_B17p (io), V11 IO, DIFFIO_B14p (io), V12 IO, DIFFIO_B17n (io), V13 IO, DIFFIO_B26p (io), V14 IO, DIFFIO_B26n (io), W9 IO, DIFFIO_B8p (io), W10 IO, DIFFIO_B14n (io), W11 IO, DIFFIO_B16p (io), W12 IO, DIFFIO_B20p (io), W13 IO, DIFFIO_B30p (io), W14 IO, DIFFIO_B33p (io), Y9 IO, DIFFIO_B8n (io), Y10 IO, DIFFIO_B15p (io), Y11 IO, DIFFIO_B16n (io), Y12 IO, DIFFIO_B20n (io), Y13 IO, DIFFIO_B30n (io), Y14 IO, DIFFIO_B33n (io)
part B pins: AA15 IO, DIFFIO_B45p (io), AA17 IO, DIFFIO_B53n (io), AA20 IO, DIFFIO_B64p (io), AA21 IO, PLL3_CLKOUTp (io), AA22 IO, RDN2 (io), AB14 IO, VREFB4N2 (io), AB15 IO, DIFFIO_B45n (io), AB18 IO, VREFB4N1 (io), AB20 IO, DIFFIO_B64n (io), AB21 IO, PLL3_CLKOUTn (io), AC14 IO, DIFFIO_B37p, (DQ4B, DQ5B, DQ5B) (io), AC15 IO, DIFFIO_B41p (io), AC16 IO, DIFFIO_B43p, (DQ4B, DQ5B, DQ5B) (io), AC17 IO, DIFFIO_B47p, (DQ4B, DQ5B, DQ5B) (io), AC18 IO, DIFFIO_B54p, (DQ2B, DQ5B, DQ5B) (io), AC19 IO, DIFFIO_B58p, (DQS2B/CQ3B, DPCLK4, DQS2B/CQ3B, DPCLK4, DQS2B/CQ3B, DPCLK4) (io), AC20 IO, VREFB4N0 (io), AC21 IO, DIFFIO_B67p, (_, DQ5B, DQ5B) (io), AC22 IO, DIFFIO_B69p (io), AD14 IO, DIFFIO_B37n, (DQS4B/CQ5B, DPCLK3, DQS4B/CQ5B, DPCLK3, DQS4B/CQ5B, DPCLK3) (io), AD15 IO, DIFFIO_B41n (io), AD16 IO, DIFFIO_B43n, (DQ4B, DQ5B, DQ5B) (io), AD17 IO, DIFFIO_B47n, (DM2B, DM5B/BWS#5B, DM5B/BWS#5B) (io), AD18 IO, DIFFIO_B54n, (DQ2B, DQ5B, DQ5B) (io), AD19 IO, DIFFIO_B58n (io), AD20 IO, DIFFIO_B61p, (DQ2B, DQ5B, DQ5B) (io), AD21 IO, DIFFIO_B67n, (DQ2B, DQ5B, DQ5B) (io), AD22 IO, DIFFIO_B69n, (DQS0B/CQ1B, DPCLK5, DQS0B/CQ1B, DPCLK5, DQS0B/CQ1B, DPCLK5) (io), AD23 IO, DIFFIO_B70p (io), AD24 IO, DIFFIO_B70n (io), AE14 IO, DIFFIO_B39p, (DQ4B, DQ5B, DQ5B) (io), AE15 IO, DIFFIO_B39n, (DQ4B, DQ5B, DQ5B) (io), AE17 IO, DIFFIO_B48p (io), AE18 IO, DIFFIO_B52p (io), AE19 IO, DIFFIO_B55p (io), AE21 IO, DIFFIO_B61n (io), AE22 IO, DIFFIO_B62p (io), AE23 IO, DIFFIO_B65p (io), AF15 IO, DIFFIO_B42p, (DQ4B, DQ5B, DQ5B) (io), AF16 IO, DIFFIO_B42n, (DQ4B, DQ5B, DQ5B) (io), AF17 IO, DIFFIO_B48n, (DQ2B, DQ5B, DQ5B) (io), AF18 IO, DIFFIO_B52n (io), AF19 IO, DIFFIO_B55n, (DQ2B, DQ5B, DQ5B) (io), AF20 IO, DIFFIO_B59p, (DQ2B, DQ5B, DQ5B) (io), AF21 IO, DIFFIO_B59n, (DQ2B, DQ5B, DQ5B) (io), AF22 IO, DIFFIO_B62n (io), AF23 IO, DIFFIO_B65n (io), AF24 IO, DIFFIO_B68p (io), AF25 IO, DIFFIO_B68n (io), U16 IO, DIFFIO_B51p (io), U18 IO, DIFFIO_B63p (io), V15 IO, DIFFIO_B49p (io), V16 IO, DIFFIO_B50p (io), V17 IO, DIFFIO_B51n (io), V18 IO, DIFFIO_B63n (io), V19 IO, DIFFIO_B72p (io), W15 IO, DIFFIO_B49n (io), W16 IO, DIFFIO_B50n (io), W17 IO, DIFFIO_B57p (io), W18 IO, DIFFIO_B57n (io), W19 IO, DIFFIO_B72n (io), Y17 IO, DIFFIO_B53p (io), Y21 IO, RUP2 (io)
part C pins: AA23 IO, DIFFIO_R61p, (DQS5R/CQ5R#, DPCLK6, DQS5R/CQ5R#, DPCLK6, DQS5R/CQ5R#, DPCLK6) (io), AA24 IO, DIFFIO_R61n, (DM3R/BWS#3R, DM3R/BWS#3R, DM1R/BWS#1R) (io), AA25 IO, DIFFIO_R50p, (DQS3R/CQ3R#, DPCLK7, DQS3R/CQ3R#, DPCLK7, DQS3R/CQ3R#, DPCLK7) (io), AA26 IO, DIFFIO_R47p (io), AB23 IO, DIFFIO_R60p (io), AB24 IO, DIFFIO_R60n (io), AB26 IO, DIFFIO_R50n (io), AC23 IO, DIFFIO_R59p, (DQ3R, DQ3R, DQ1R) (io), AC24 IO, DIFFIO_R59n, (DQ3R, DQ3R, DQ1R) (io), AC25 IO, DIFFIO_R51p, (DQ3R, DQ3R, DQ1R) (io), AC26 IO, DIFFIO_R51n, (DQ3R, DQ3R, DQ1R) (io), AD25 IO, DIFFIO_R54p, (DQ3R, DQ3R, DQ1R) (io), AD26 IO, DIFFIO_R54n, (DQ3R, DQ3R, DQ1R) (io), AE25 IO, DIFFIO_R57p (io), AE26 IO, DIFFIO_R57n (io), P19 IO, DIFFIO_R34p (io), P20 IO, DIFFIO_R34n (io), P23 IO, DIFFIO_R33p, (DQ1R, DQ3R, DQ1R) (io), P24 IO, DIFFIO_R33n, (DQ1R, DQ3R, DQ1R) (io), R19 IO, DIFFIO_R38p, (DQS1R/CQ1R#, DPCLK8, DQS1R/CQ1R#, DPCLK8, DQS1R/CQ1R#, DPCLK8) (io), R20 IO, DIFFIO_R38n (io), R22 IO, DIFFIO_R35p (io), R23 IO, DIFFIO_R35n (io), R24 IO, VREFB5N0 (io), R25 IO, DIFFIO_R36p, (DQ1R, DQ3R, DQ1R) (io), T19 IO, DIFFIO_R46n (io), T21 IO, DIFFIO_R49p, (DM1R/BWS#1R, DM3R/BWS#3R, DM1R/BWS#1R) (io), T22 IO, DIFFIO_R41p (io), T23 IO, DIFFIO_R41n, (DQ1R, DQ3R, DQ1R) (io), T24 IO, DIFFIO_R39p, (DQ1R, DQ3R, DQ1R) (io), T25 IO, DIFFIO_R39n (io), T26 IO, DIFFIO_R36n, (DQ1R, DQ3R, DQ1R) (io), U19 IO, DIFFIO_R46p (io), U22 IO, DIFFIO_R49n (io), U23 IO, DIFFIO_R53n, (DQ3R, DQ3R, DQ1R) (io), U24 IO, VREFB5N1 (io), U25 IO, DIFFIO_R40p, (DQ1R, DQ3R, DQ1R) (io), U26 IO, DIFFIO_R40n (io), V21 IO, DIFFIO_R55p, DEV_CLRn (io), V22 IO, DIFFIO_R53p, (DQ3R, DQ3R, DQ1R) (io), V23 IO, DIFFIO_R52p (io), V24 IO, DIFFIO_R52n, (DQ3R, DQ3R, DQ1R) (io), V26 IO, DIFFIO_R43n, (DQ1R, DQ3R, DQ1R) (io), W22 IO, DIFFIO_R55n, DEV_OE (io), W23 IO, VREFB5N2 (io), W24 IO, DIFFIO_R44p (io), W25 IO, DIFFIO_R44n (io), W26 IO, DIFFIO_R43p (io), Y22 IO, RUP3 (io), Y23 IO, RDN3 (io), Y24 IO, DIFFIO_R48p, (DQ1R, DQ3R, DQ1R) (io), Y25 IO, DIFFIO_R48n (io), Y26 IO, DIFFIO_R47n (io)
part D pins: B25 IO, DIFFIO_R3p, (DQ2R, DQ1R, DQ1R) (io), B26 IO, DIFFIO_R3n, (DQ2R, DQ1R, DQ1R) (io), C24 IO, DIFFIO_R2n (io), C25 IO, DIFFIO_R4p (io), C26 IO, DIFFIO_R4n (io), D24 IO, DIFFIO_R2p, (DQS4R/CQ5R, DPCLK11, DQS4R/CQ5R, DPCLK11, DQS4R/CQ5R, DPCLK11) (io), D25 IO, DIFFIO_R10p (io), D26 IO, DIFFIO_R10n, (DQS2R/CQ3R, DPCLK10, DQS2R/CQ3R, DPCLK10, DQS2R/CQ3R, DPCLK10) (io), E24 IO, DIFFIO_R5n (io), E25 IO, DIFFIO_R11p, (DQ2R, DQ1R, DQ1R) (io), E26 IO, DIFFIO_R11n, (DQ2R, DQ1R, DQ1R) (io), F21 IO, DIFFIO_R1p (io), F23 IO, DIFFIO_R7p (io), F24 IO, DIFFIO_R5p (io), F26 IO, DIFFIO_R15n (io), G22 IO, DIFFIO_R1n (io), G23 IO, VREFB6N0 (io), G24 IO, DIFFIO_R7n (io), G25 IO, DIFFIO_R12n (io), G26 IO, DIFFIO_R15p, (DQ2R, DQ1R, DQ1R) (io), H22 IO, DIFFIO_R9p (io), H23 IO, DIFFIO_R9n (io), H24 IO, DIFFIO_R12p (io), H25 IO, DIFFIO_R16p, (DM2R, DM1R/BWS#1R, DM1R/BWS#1R) (io), H26 IO, DIFFIO_R16n (io), J20 IO, DIFFIO_R17n (io), J23 IO, DIFFIO_R13n, (DQ2R, DQ1R, DQ1R) (io), J24 IO, VREFB6N1 (io), J25 IO, DIFFIO_R19n (io), J26 IO, DIFFIO_R21p (io), K19 IO, DIFFIO_R17p (io), K20 IO, DIFFIO_R20p (io), K21 IO, DIFFIO_R18p, (DQ2R, DQ1R, DQ1R) (io), K22 IO, DIFFIO_R18n, (_, DQ1R, DQ1R) (io), K23 IO, DIFFIO_R13p, (DQ2R, DQ1R, DQ1R) (io), K24 IO, DIFFIO_R19p, (_, DQ1R, DQ1R) (io), K26 IO, DIFFIO_R21n (io), L19 IO, DIFFIO_R29n, (DQS0R/CQ1R, DPCLK9, DQS0R/CQ1R, DPCLK9, DQS0R/CQ1R, DPCLK9) (io), L21 IO, DIFFIO_R20n, (DQ0R, DQ1R, DQ1R) (io), L22 IO, DIFFIO_R25n (io), L23 IO, DIFFIO_R23p, (DQ0R, DQ1R, DQ1R) (io), L24 IO, DIFFIO_R23n (io), L25 IO, DIFFIO_R24p, (DQ0R, DQ1R, DQ1R) (io), L26 IO, DIFFIO_R24n (io), M19 IO, DIFFIO_R29p (io), M22 IO, DIFFIO_R25p, (DQ0R, DQ1R, DQ1R) (io), M23 IO, VREFB6N2 (io), M24 IO, DIFFIO_R30n, (DQ0R, DQ1R, DQ1R) (io), M25 IO, DIFFIO_R26p, (DQ0R, DQ1R, DQ1R) (io), M26 IO, DIFFIO_R26n (io), N19 IO, DIFFIO_R32p, (DQ0R, DQ1R, DQ1R) (io), N20 IO, DIFFIO_R32n, (DM0R, DM1R/BWS#1R, DM1R/BWS#1R) (io), N22 IO, DIFFIO_R31p (io), N23 IO, DIFFIO_R31n (io), N24 IO, DIFFIO_R30p, (DQ0R, DQ1R, DQ1R) (io)
part E pins: A15 IO, DIFFIO_T39n, (DQ4T, DQ5T, DQ5T) (io), A16 IO, DIFFIO_T41n, (DQ4T, DQ5T, DQ5T) (io), A17 IO, DIFFIO_T41p (io), A18 IO, DIFFIO_T47n (io), A19 IO, DIFFIO_T47p, (DQS2T/CQ3T, DPCLK13, DQS2T/CQ3T, DPCLK13, DQS2T/CQ3T, DPCLK13) (io), A20 IO, DIFFIO_T51n (io), A21 IO, DIFFIO_T51p, (DQ2T, DQ5T, DQ5T) (io), A22 IO, DIFFIO_T52n, (DQ2T, DQ5T, DQ5T) (io), A23 IO, DIFFIO_T63n (io), A24 IO, DIFFIO_T65n, (DQS0T/CQ1T, DPCLK12, DQS0T/CQ1T, DPCLK12, DQS0T/CQ1T, DPCLK12) (io), A25 IO, DIFFIO_T65p, (DQ2T, DQ5T, DQ5T) (io), B15 IO, DIFFIO_T39p (io), B17 IO, DIFFIO_T40n, (DQ4T, DQ5T, DQ5T) (io), B18 IO, DIFFIO_T44n (io), B19 IO, DIFFIO_T49n (io), B21 IO, DIFFIO_T52p, (DQ2T, DQ5T, DQ5T) (io), B22 IO, DIFFIO_T58n, (DQ2T, DQ5T, DQ5T) (io), B23 IO, DIFFIO_T63p (io), C14 IO, DIFFIO_T36n, (_, DQ5T, DQ5T) (io), C15 IO, DIFFIO_T36p, (DM4T, DM5T/BWS#5T, DM5T/BWS#5T) (io), C16 IO, DIFFIO_T40p, (DQ4T, DQ5T, DQ5T) (io), C17 IO, DIFFIO_T44p, (DQ4T, DQ5T, DQ5T) (io), C18 IO, DIFFIO_T48n, (DM2T, DM5T/BWS#5T, DM5T/BWS#5T) (io), C19 IO, DIFFIO_T49p, (_, DQ5T, DQ5T) (io), C20 IO, DIFFIO_T57n, (DQ2T, DQ5T, DQ5T) (io), C21 IO, DIFFIO_T58p (io), C22 IO, DIFFIO_T66n, (DQ2T, DQ5T, DQ5T) (io), C23 IO (io), D15 IO, DIFFIO_T37n, (DQ4T, DQ5T, DQ5T) (io), D16 IO, VREFB7N2 (io), D17 IO, DIFFIO_T46n, (DQ4T, DQ5T, DQ5T) (io), D18 IO, DIFFIO_T48p (io), D19 IO, DIFFIO_T57p (io), D20 IO, DIFFIO_T62n (io), D21 IO, DIFFIO_T62p (io), D22 IO, DIFFIO_T66p, (DQ2T, DQ5T, DQ5T) (io), D23 IO, RDN4 (io), E15 IO, DIFFIO_T37p, (DQS4T/CQ5T, DPCLK14, DQS4T/CQ5T, DPCLK14, DQS4T/CQ5T, DPCLK14) (io), E16 IO, DIFFIO_T46p, (DQ4T, DQ5T, DQ5T) (io), E17 IO, VREFB7N1 (io), E18 IO, DIFFIO_T60n (io), E19 IO, DIFFIO_T60p (io), E20 IO, VREFB7N0 (io), E21 IO, PLL4_CLKOUTn (io), E22 IO, PLL4_CLKOUTp (io), E23 IO, RUP4 (io), F15 IO, DIFFIO_T56n (io), G14 IO, DIFFIO_T42n (io), G15 IO, DIFFIO_T56p (io), G17 IO, DIFFIO_T64n (io), H14 IO, DIFFIO_T42p (io), H15 IO, DIFFIO_T59n (io), H16 IO, DIFFIO_T61n (io), H17 IO, DIFFIO_T64p (io), H18 IO, DIFFIO_T69n (io), J15 IO, DIFFIO_T59p (io), J16 IO, DIFFIO_T61p (io), J17 IO, DIFFIO_T69p (io), J18 IO, DIFFIO_T67n (io), J19 IO, DIFFIO_T67p (io)
part F pins: A2 IO, DIFFIO_T13n, (DQ3T, DQ3T, DQ5T) (io), A3 IO, DIFFIO_T13p (io), A4 IO, DIFFIO_T15n, (DQS3T/CQ3T#, DPCLK16, DQS3T/CQ3T#, DPCLK16, DQS3T/CQ3T#, DPCLK16) (io), A5 IO, DIFFIO_T21n (io), A6 IO, DIFFIO_T29n, (DQ5T, DQ3T, DQ5T) (io), A7 IO, DIFFIO_T29p, (DQ5T, DQ3T, DQ5T) (io), A8 IO, DIFFIO_T30n, (DQ5T, DQ3T, DQ5T) (io), A9 IO, DIFFIO_T30p (io), A10 IO, DIFFIO_T31n, (DQ5T, DQ3T, DQ5T) (io), A11 IO, DIFFIO_T32n, (DQ5T, DQ3T, DQ5T) (io), A12 IO, DIFFIO_T34n, (DQS5T/CQ5T#, DPCLK15, DQS5T/CQ5T#, DPCLK15, DQS5T/CQ5T#, DPCLK15) (io), A13 IO, DIFFIO_T34p, (DQ5T, DQ3T, DQ5T) (io), B1 IO, DIFFIO_T10n (io), B2 IO, DIFFIO_T10p (io), B4 IO, DIFFIO_T15p, (DQ3T, DQ3T, DQ5T) (io), B5 IO, DIFFIO_T21p (io), B6 IO, DIFFIO_T16n, (DM5T/BWS#5T, DM3T/BWS#3T, DM5T/BWS#5T) (io), B7 IO, DIFFIO_T16p (io), B9 IO, DIFFIO_T14n (io), B10 IO, DIFFIO_T31p, (DQ5T, DQ3T, DQ5T) (io), B11 IO, DIFFIO_T32p, (DQ5T, DQ3T, DQ5T) (io), B13 IO, DIFFIO_T35n (io), C1 IO, PLL7_CLKOUTn (io), C2 IO, DIFFIO_T2n, (DQ3T, DQ3T, DQ5T) (io), C3 IO, DIFFIO_T3n, (DQ3T, DQ3T, DQ5T) (io), C4 IO, DIFFIO_T11n, (DQ3T, DQ3T, DQ5T) (io), C5 IO, DIFFIO_T11p (io), C6 IO, DIFFIO_T4n, DATA4, (DM3T/BWS#3T, DM3T/BWS#3T, DM5T/BWS#5T) (io), C7 IO, DIFFIO_T4p, DATA3 (io), C8 IO, DIFFIO_T1n, DATA2 (io), C9 IO, DIFFIO_T1p (io), C10 IO, DIFFIO_T14p, (DQ3T, DQ3T, DQ5T) (io), C11 IO, DIFFIO_T22n (io), C12 IO, DIFFIO_T22p, (DQ5T, DQ3T, DQ5T) (io), C13 IO, DIFFIO_T35p (io), D1 IO, PLL7_CLKOUTp (io), D2 IO, DIFFIO_T2p, (DQ3T, DQ3T, DQ5T) (io), D3 IO, DIFFIO_T3p, (DQ3T, DQ3T, DQ5T) (io), D4 IO, CLKUSR (io), D7 IO, PLL2_CLKOUTn (io), D8 IO, DIFFIO_T6n (io), D9 IO, DIFFIO_T9n, (DQ3T, DQ3T, DQ5T) (io), D10 IO, DIFFIO_T9p, (DQS1T/CQ1T#, DPCLK17, DQS1T/CQ1T#, DPCLK17, DQS1T/CQ1T#, DPCLK17) (io), D11 IO, VREFB8N1 (io), D12 IO, DIFFIO_T18n (io), D13 IO, DIFFIO_T23n (io), D14 IO, VREFB8N0 (io), E1 IO, PLL8_CLKOUTn (io), E2 IO, PLL8_CLKOUTp (io), E7 IO, PLL2_CLKOUTp (io), E8 IO, DIFFIO_T6p (io), E9 IO, VREFB8N2 (io), E11 IO, DIFFIO_T18p (io), E12 IO, DIFFIO_T23p (io), E13 IO, DIFFIO_T26n (io), E14 IO, DIFFIO_T26p (io), F8 IO (io), G9 IO, DIFFIO_T7n (io), G10 IO, DIFFIO_T8n (io), G11 IO, DIFFIO_T17n (io), H9 IO, DIFFIO_T7p (io), H10 IO, DIFFIO_T8p (io), H11 IO, DIFFIO_T17p (io), H12 IO, DIFFIO_T20n (io), H13 IO, DIFFIO_T24n (io), J11 IO, DIFFIO_T19n (io), J12 IO, DIFFIO_T20p (io), J13 IO, DIFFIO_T24p (io), J14 IO, DIFFIO_T28n (io), K12 IO, DIFFIO_T19p (io), K13 IO, DIFFIO_T28p (io)
part G pins: A14 CLKIO8, DIFFCLK_5n (in), AF13 CLKIO14, DIFFCLK_6p (in), AF14 CLKIO15, DIFFCLK_6n (in), B14 CLKIO9, DIFFCLK_5p (in), K9 REFCLK5n, DIFFCLK_9n (in), K10 REFCLK4n, DIFFCLK_8n (in), L9 REFCLK5p, DIFFCLK_9p, CLKIO19 (in), L10 REFCLK4p, DIFFCLK_8p, CLKIO17 (in), L14 CLKIO10, DIFFCLK_4n, REFCLK3n (in), L15 CLKIO11, DIFFCLK_4p, REFCLK3p (in), N25 CLKIO7, DIFFCLK_3p (in), N26 CLKIO6, DIFFCLK_3n (in), P26 CLKIO4, DIFFCLK_2n (in), R26 CLKIO5, DIFFCLK_2p (in), T9 REFCLK0p, DIFFCLK_0p, CLKIO20 (in), T10 REFCLK1p, DIFFCLK_1p, CLKIO22 (in), T14 CLKIO12, DIFFCLK_7p, REFCLK2p (in), T15 CLKIO13, DIFFCLK_7n, REFCLK2n (in), U9 REFCLK0n, DIFFCLK_0n (in), U10 REFCLK1n, DIFFCLK_1n (in)
part H pins: AA1 GXB_RX0n (in), AA2 GXB_RX0p (in), P3 GXB_TX3n (out), P4 GXB_TX3p (out), R1 GXB_RX3n (in), R2 GXB_RX3p (in), T3 GXB_TX2n (out), T4 GXB_TX2p (out), U1 GXB_RX2n (in), U2 GXB_RX2p (in), V3 GXB_TX1n (out), V4 GXB_TX1p (out), W1 GXB_RX1n (in), W2 GXB_RX1p (in), Y3 GXB_TX0n (out), Y4 GXB_TX0p (out)
part I pins: F3 GXB_TX7n (out), F4 GXB_TX7p (out), G1 GXB_RX7n (in), G2 GXB_RX7p (in), H3 GXB_TX6n (out), H4 GXB_TX6p (out), J1 GXB_RX6n (in), J2 GXB_RX6p (in), K3 GXB_TX5n (out), K4 GXB_TX5p (out), L1 GXB_RX5n (in), L2 GXB_RX5p (in), M3 GXB_TX4n (out), M4 GXB_TX4p (out), N1 GXB_RX4n (in), N2 GXB_RX4p (in)
part J pins: AA5 nSTATUS (io), AA6 MSEL0 (in), AB6 CONF_DONE (io), D5 IO, NCSO (io), D6 IO, DATA0 (io), E5 nCONFIG (in), E6 IO, DATA1, ASDO (io), F5 TMS (in), F6 DCLK (io), G6 TDI (in), G8 TCK (in), H7 nCE (in), H8 TDO (out), W7 MSEL3 (in), Y6 MSEL2 (in), Y7 MSEL1 (in)
part K pins: AA10 VCCIO3 (power), AA11 VCCIO3 (power), AA12 VCCIO3 (power), AA13 VCCIO3 (power), AA14 VCCIO3 (power), AA16 VCCIO4 (power), AA18 VCCIO4 (power), AA19 VCCIO4 (power), AB17 VCCIO4 (power), E10 VCCIO8 (power), F9 VCCIO8 (power), F11 VCCIO8 (power), F13 VCCIO8 (power), F14 VCCIO8 (power), F16 VCCIO7 (power), F18 VCCIO7 (power), F20 VCCIO7 (power), G7 VCCIO9 (power), G12 VCCIO8 (power), G16 VCCIO7 (power), G18 VCCIO7 (power), G19 VCCIO7 (power), H21 VCCIO6 (power), J9 VCC_CLKIN8B (power), J10 VCCINT (power), J21 VCCIO6 (power), K8 VCCINT (power), K14 VCC_CLKIN8A (power), K16 VCCINT (power), K18 VCCINT (power), L7 VCCINT (power), L11 VCCINT (power), L13 VCCINT (power), L17 VCCINT (power), L20 VCCIO6 (power), M8 VCCINT (power), M10 VCCINT (power), M12 VCCINT (power), M14 VCCINT (power), M16 VCCINT (power), M18 VCCINT (power), M20 VCCIO6 (power), N9 VCCINT (power), N11 VCCINT (power), N13 VCCINT (power), N15 VCCINT (power), N17 VCCINT (power), N21 VCCIO6 (power), P8 VCCINT (power), P10 VCCINT (power), P12 VCCINT (power), P14 VCCINT (power), P16 VCCINT (power), P18 VCCINT (power), P21 VCCIO5 (power), R7 VCCINT (power), R9 VCCINT (power), R11 VCCINT (power), R13 VCCINT (power), R15 VCCINT (power), R17 VCCINT (power), R21 VCCIO5 (power), T8 VCCINT (power), T12 VCCINT (power), T16 VCCINT (power), T18 VCCINT (power), T20 VCCIO5 (power), U11 VCCINT (power), U13 VCCINT (power), U14 VCC_CLKIN3A (power), U15 VCCINT (power), U17 VCCINT (power), U20 VCCIO5 (power), V8 VCCINT (power), V9 VCC_CLKIN3B (power), V10 VCCINT (power), V20 VCCIO5 (power), W8 VCCIO3 (power), Y15 VCCIO4 (power), Y19 VCCIO4 (power)
part L pins: AA3 VCCL_GXB (power), AA4 VCCL_GXB (power), AC3 VCCA_GXB (power), AD2 VCCL_GXB (power), G5 VCCL_GXB (power), G21 VCCD_PLL (power), H5 VCCL_GXB (power), H6 VCCA (power), H20 VCCA (power), J5 VCCH_GXB (power), J6 VCCD_PLL (power), K5 VCCA_GXB (power), K7 VCCA (power), L5 VCCL_GXB (power), L6 VCCD_PLL (power), M5 VCCH_GXB (power), M6 VCCD_PLL (power), N5 VCCA_GXB (power), N7 VCCA (power), P5 VCCL_GXB (power), P7 VCCA (power), R5 VCCH_GXB (power), R6 VCCD_PLL (power), T5 VCCA_GXB (power), T6 VCCD_PLL (power), U5 VCCL_GXB (power), U7 VCCA (power), V5 VCCH_GXB (power), V6 VCCD_PLL (power), W5 VCCA_GXB (power), W6 VCCA (power), W21 VCCA (power), Y5 VCCL_GXB (power), Y20 VCCD_PLL (power)
part M pins: AB1 GND (power), AB2 GND (power), AB10 GND (power), AB13 GND (power), AB16 GND (power), AB19 GND (power), AB22 GND (power), AB25 GND (power), AC2 GND (power), AD1 GND (power), AE4 GND (power), AE8 GND (power), AE12 GND (power), AE16 GND (power), AE20 GND (power), AE24 GND (power), B3 GND (power), B8 GND (power), B12 GND (power), B16 GND (power), B20 GND (power), B24 GND (power), E3 GND (power), E4 GND (power), F1 GND (power), F2 GND (power), F7 GND (power), F10 GND (power), F12 GND (power), F17 GND (power), F19 GND (power), F22 GND (power), F25 GND (power), G3 GND (power), G4 GND (power), G13 GND (power), G20 GND (power), H1 GND (power), H2 GND (power), H19 GND (power), J3 GND (power), J4 GND (power), J7 GND (power), J8 GND (power), J22 GND (power), K1 GND (power), K2 GND (power), K6 GND (power), K11 GND (power), K15 GND (power), K17 GND (power), K25 GND (power), L3 GND (power), L4 GND (power), L8 GND (power), L12 GND (power), L16 GND (power), L18 GND (power), M1 GND (power), M2 GND (power), M7 GND (power), M9 GND (power), M11 GND (power), M13 GND (power), M15 GND (power), M17 GND (power), M21 GND (power), N3 GND (power), N4 GND (power), N6 GND (power), N8 GND (power), N10 GND (power), N12 GND (power), N14 GND (power), N16 GND (power), N18 GND (power), P1 GND (power), P2 GND (power), P6 GND (power), P9 GND (power), P11 GND (power), P13 GND (power), P15 GND (power), P17 GND (power), P22 GND (power), P25 GND (power), R3 GND (power), R4 GND (power), R8 GND (power), R10 GND (power), R12 GND (power), R14 GND (power), R16 GND (power), R18 GND (power), T1 GND (power), T2 GND (power), T7 GND (power), T11 GND (power), T13 GND (power), T17 GND (power), U3 GND (power), U4 GND (power), U6 GND (power), U8 GND (power), U21 GND (power), V1 GND (power), V2 GND (power), V7 GND (power), V25 GND (power), W3 GND (power), W4 GND (power), W20 GND (power), Y1 GND (power), Y2 GND (power), Y8 GND (power), Y16 GND (power), Y18 GND (power)
part N pins: AB3 NC, AB4 NC, AC1 RREF0
part A text: BANK 3
part B text: BANK 4
part C text: BANK 5
part D text: BANK 6
part E text: BANK 7
part F text: BANK 8

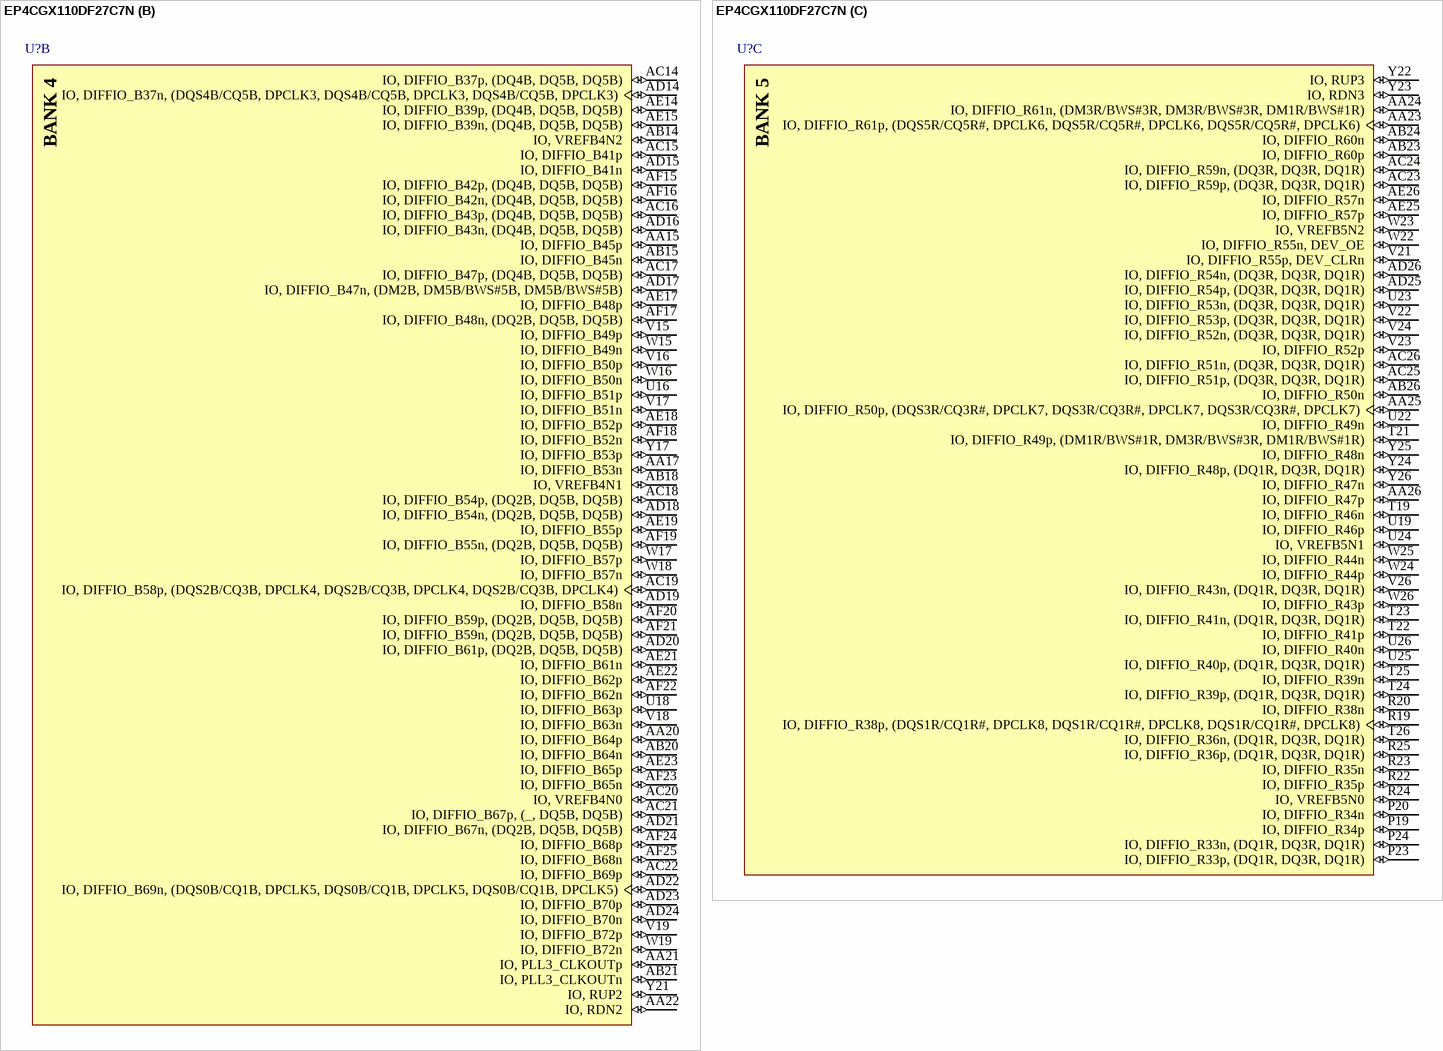
[diagram p149: symbol EP4CGX110DF27C7N]

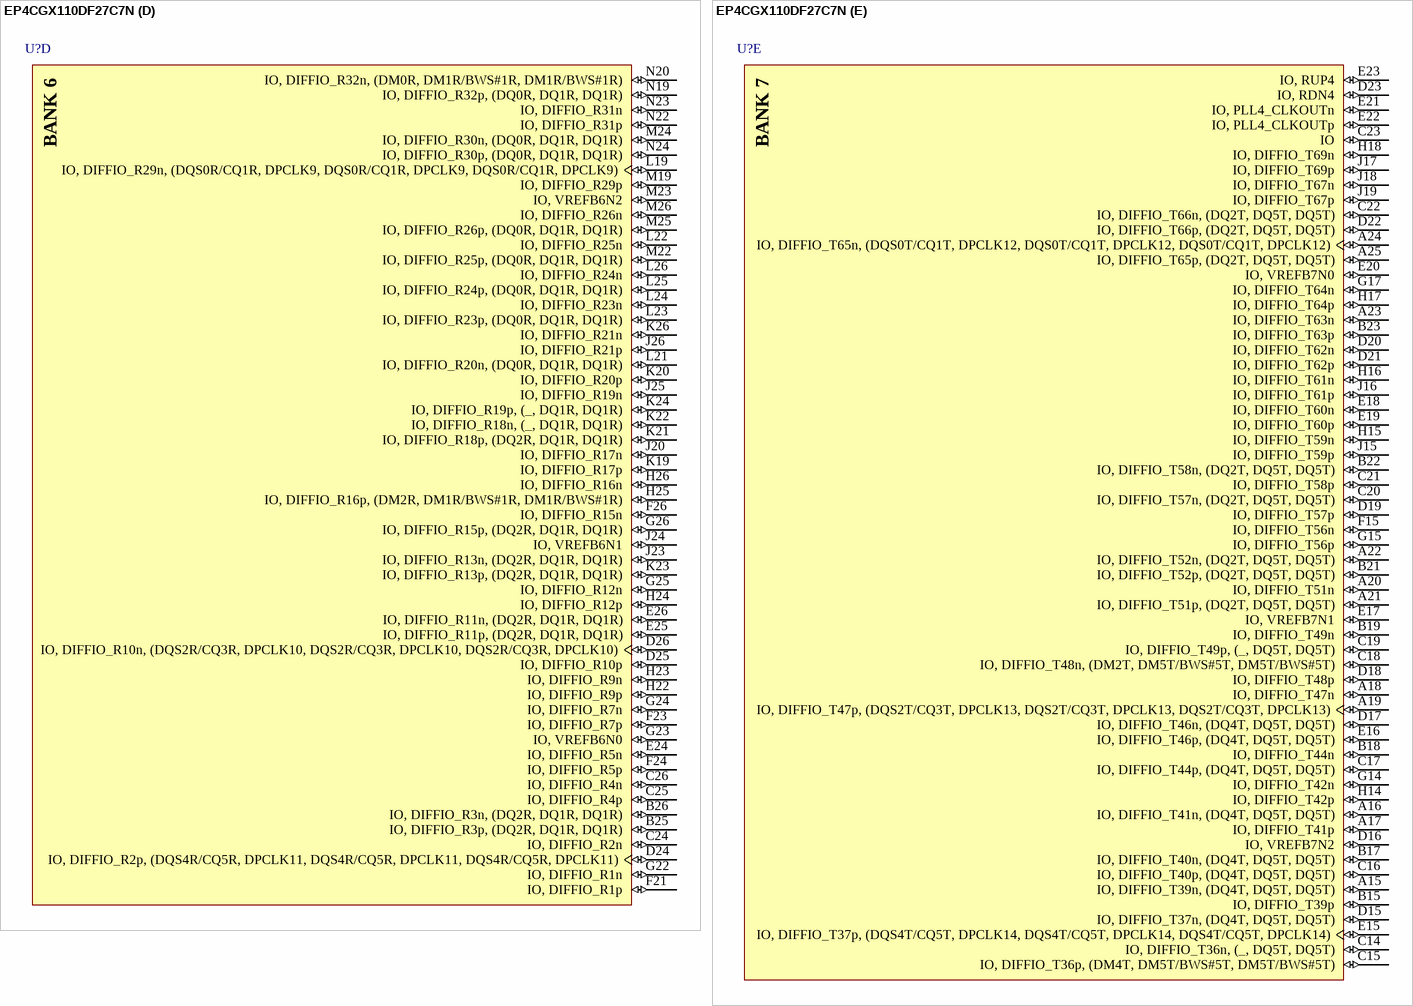
[diagram p150: symbol EP4CGX110DF27C7N]

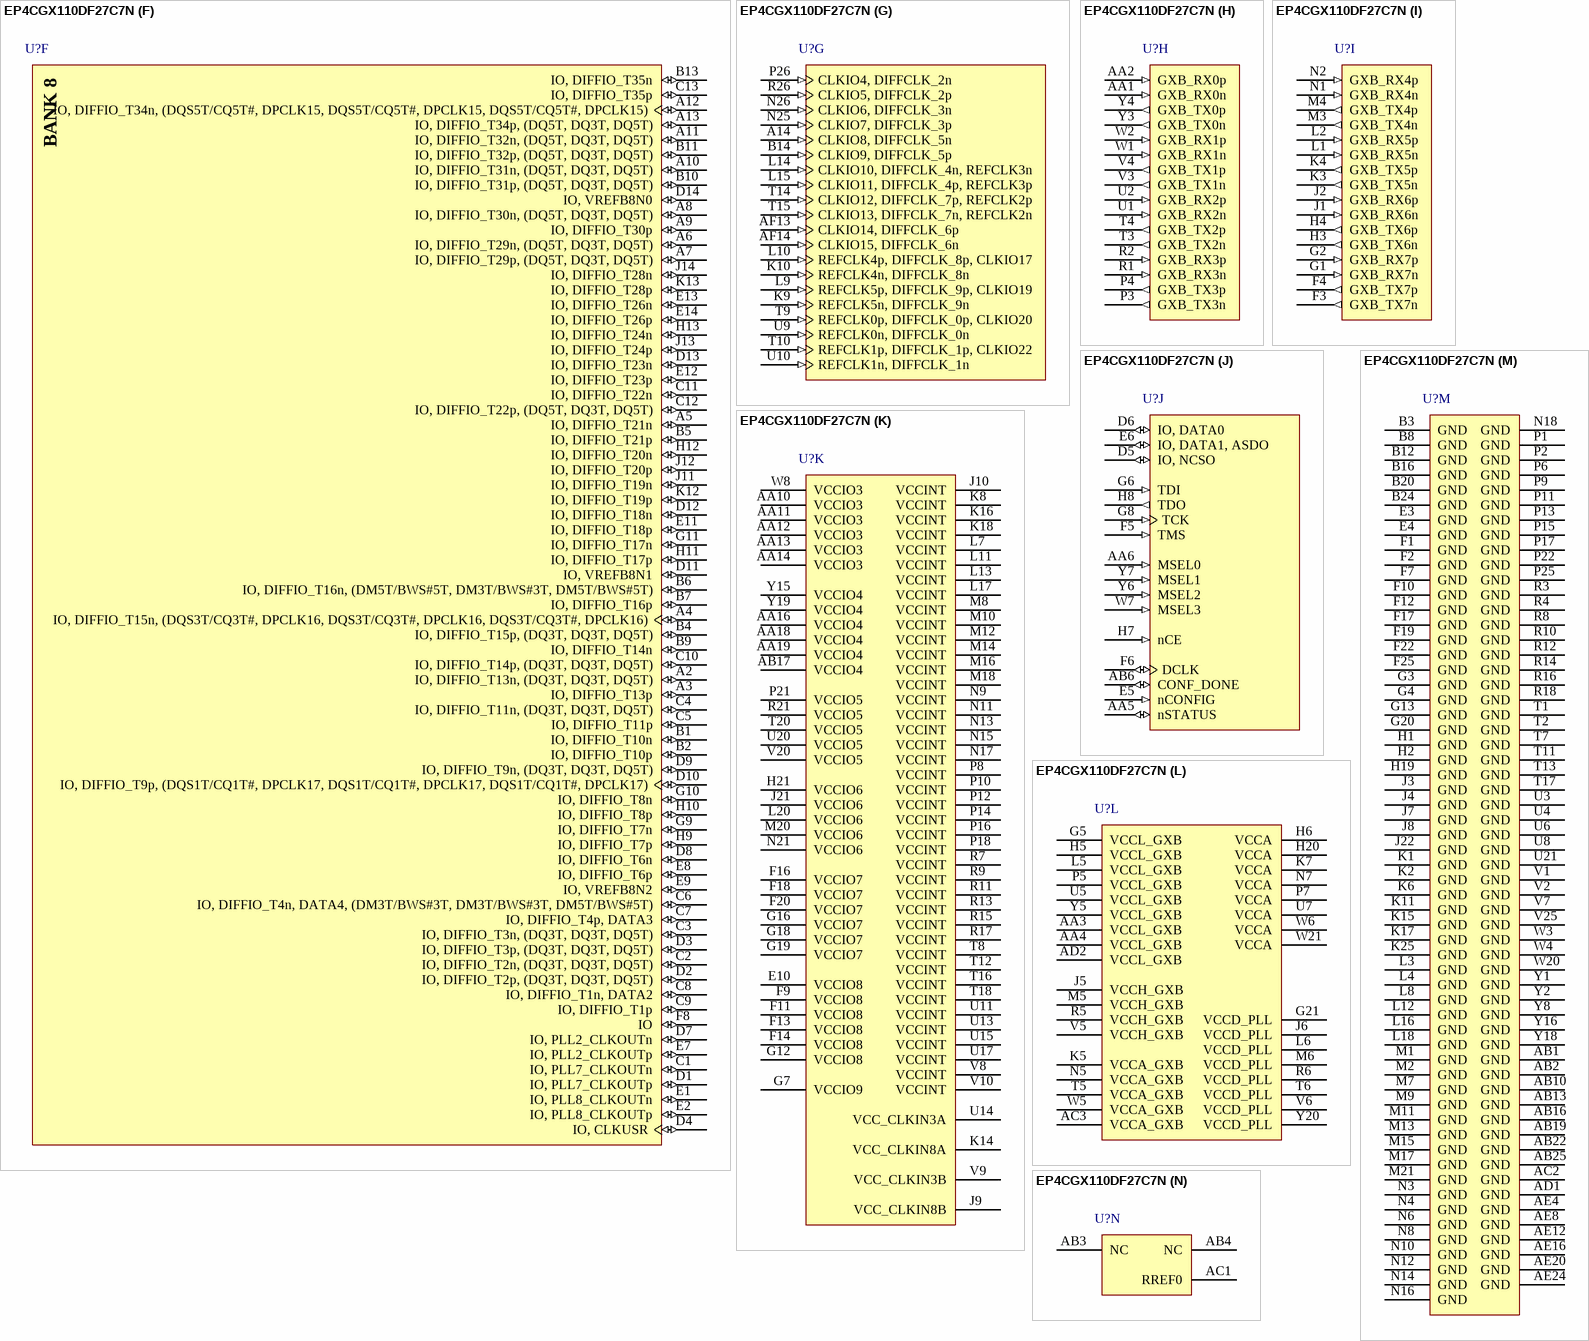
[diagram p151: symbol EP4CGX110DF27C7N]